# Altium integrated library NUVOTON.IntLib: 234 symbols (part 4 of 9)

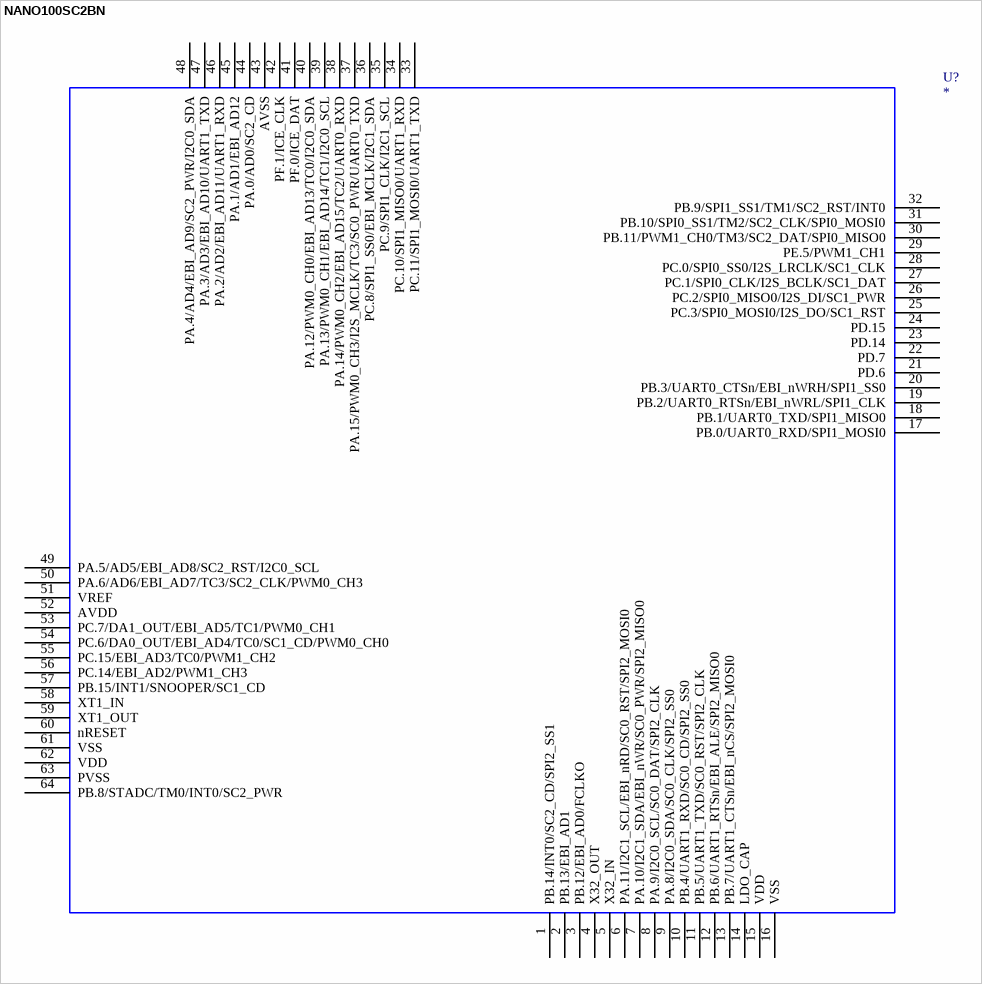
[diagram p69: symbol NANO100SC2BN]

## NANO100SC2BN
designator U?
OriginalSymbolOrigin: (0,0)
footprint MCU_LQFP_64_7x7
pins: 1 PB.14/INT0/SC2_CD/SPI2_SS1, 2 PB.13/EBI_AD1, 3 PB.12/EBI_AD0/FCLKO, 4 X32_OUT, 5 X32_IN, 6 PA.11/I2C1_SCL/EBI_nRD/SC0_RST/SPI2_MOSI0, 7 PA.10/I2C1_SDA/EBI_nWR/SC0_PWR/SPI2_MISO0, 8 PA.9/I2C0_SCL/SC0_DAT/SPI2_CLK, 9 PA.8/I2C0_SDA/SC0_CLK/SPI2_SS0, 10 PB.4/UART1_RXD/SC0_CD/SPI2_SS0, 11 PB.5/UART1_TXD/SC0_RST/SPI2_CLK, 12 PB.6/UART1_RTSn/EBI_ALE/SPI2_MISO0, 13 PB.7/UART1_CTSn/EBI_nCS/SPI2_MOSI0, 14 LDO_CAP, 15 VDD, 16 VSS, 17 PB.0/UART0_RXD/SPI1_MOSI0, 18 PB.1/UART0_TXD/SPI1_MISO0, 19 PB.2/UART0_RTSn/EBI_nWRL/SPI1_CLK, 20 PB.3/UART0_CTSn/EBI_nWRH/SPI1_SS0, 21 PD.6, 22 PD.7, 23 PD.14, 24 PD.15, 25 PC.3/SPI0_MOSI0/I2S_DO/SC1_RST, 26 PC.2/SPI0_MISO0/I2S_DI/SC1_PWR, 27 PC.1/SPI0_CLK/I2S_BCLK/SC1_DAT, 28 PC.0/SPI0_SS0/I2S_LRCLK/SC1_CLK, 29 PE.5/PWM1_CH1, 30 PB.11/PWM1_CH0/TM3/SC2_DAT/SPI0_MISO0, 31 PB.10/SPI0_SS1/TM2/SC2_CLK/SPI0_MOSI0, 32 PB.9/SPI1_SS1/TM1/SC2_RST/INT0, 33 PC.11/SPI1_MOSI0/UART1_TXD, 34 PC.10/SPI1_MISO0/UART1_RXD, 35 PC.9/SPI1_CLK/I2C1_SCL, 36 PC.8/SPI1_SS0/EBI_MCLK/I2C1_SDA, 37 PA.15/PWM0_CH3/I2S_MCLK/TC3/SC0_PWR/UART0_TXD, 38 PA.14/PWM0_CH2/EBI_AD15/TC2/UART0_RXD, 39 PA.13/PWM0_CH1/EBI_AD14/TC1/I2C0_SCL, 40 PA.12/PWM0_CH0/EBI_AD13/TC0/I2C0_SDA, 41 PF.0/ICE_DAT, 42 PF.1/ICE_CLK, 43 AVSS, 44 PA.0/AD0/SC2_CD, 45 PA.1/AD1/EBI_AD12, 46 PA.2/AD2/EBI_AD11/UART1_RXD, 47 PA.3/AD3/EBI_AD10/UART1_TXD, 48 PA.4/AD4/EBI_AD9/SC2_PWR/I2C0_SDA, 49 PA.5/AD5/EBI_AD8/SC2_RST/I2C0_SCL, 50 PA.6/AD6/EBI_AD7/TC3/SC2_CLK/PWM0_CH3, 51 VREF, 52 AVDD, 53 PC.7/DA1_OUT/EBI_AD5/TC1/PWM0_CH1, 54 PC.6/DA0_OUT/EBI_AD4/TC0/SC1_CD/PWM0_CH0, 55 PC.15/EBI_AD3/TC0/PWM1_CH2, 56 PC.14/EBI_AD2/PWM1_CH3, 57 PB.15/INT1/SNOOPER/SC1_CD, 58 XT1_IN, 59 XT1_OUT, 60 nRESET, 61 VSS, 62 VDD, 63 PVSS, 64 PB.8/STADC/TM0/INT0/SC2_PWR

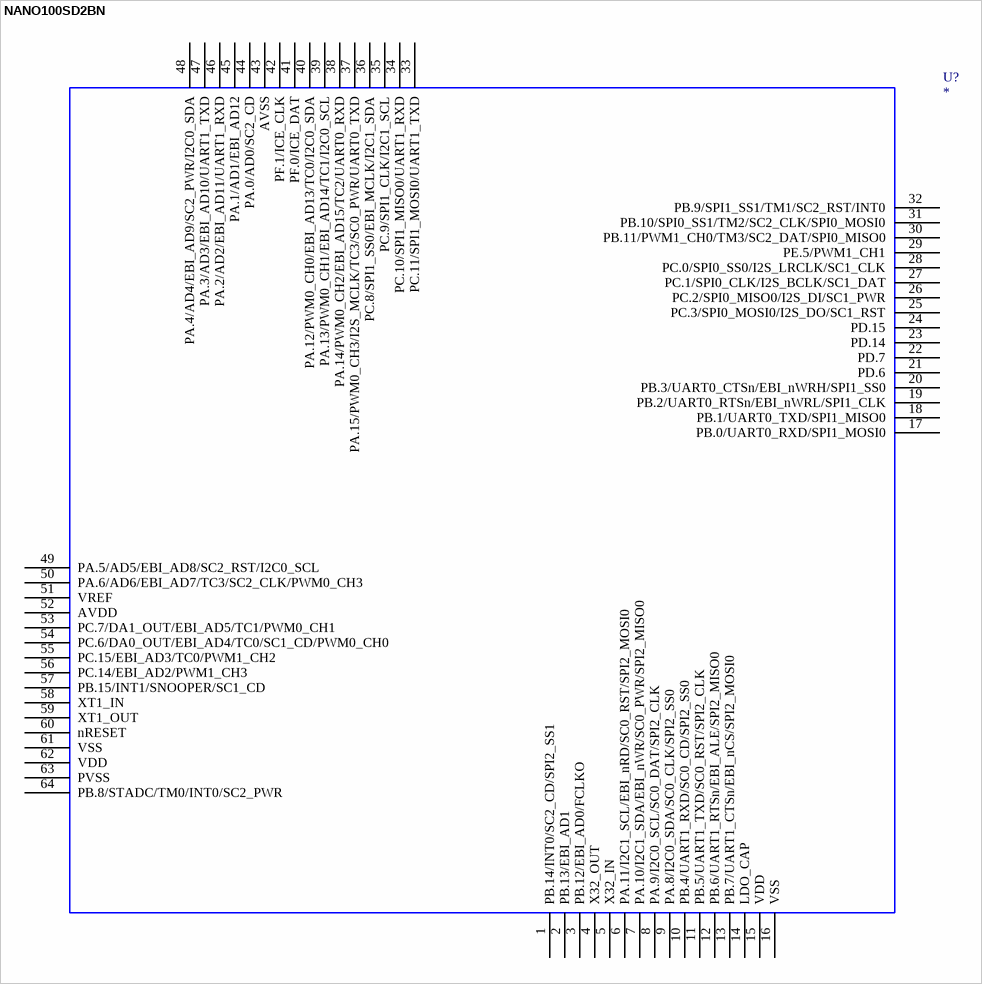
[diagram p70: symbol NANO100SD2BN]

## NANO100SD2BN
designator U?
OriginalSymbolOrigin: (0,0)
footprint MCU_LQFP_64_7x7
pins: 1 PB.14/INT0/SC2_CD/SPI2_SS1, 2 PB.13/EBI_AD1, 3 PB.12/EBI_AD0/FCLKO, 4 X32_OUT, 5 X32_IN, 6 PA.11/I2C1_SCL/EBI_nRD/SC0_RST/SPI2_MOSI0, 7 PA.10/I2C1_SDA/EBI_nWR/SC0_PWR/SPI2_MISO0, 8 PA.9/I2C0_SCL/SC0_DAT/SPI2_CLK, 9 PA.8/I2C0_SDA/SC0_CLK/SPI2_SS0, 10 PB.4/UART1_RXD/SC0_CD/SPI2_SS0, 11 PB.5/UART1_TXD/SC0_RST/SPI2_CLK, 12 PB.6/UART1_RTSn/EBI_ALE/SPI2_MISO0, 13 PB.7/UART1_CTSn/EBI_nCS/SPI2_MOSI0, 14 LDO_CAP, 15 VDD, 16 VSS, 17 PB.0/UART0_RXD/SPI1_MOSI0, 18 PB.1/UART0_TXD/SPI1_MISO0, 19 PB.2/UART0_RTSn/EBI_nWRL/SPI1_CLK, 20 PB.3/UART0_CTSn/EBI_nWRH/SPI1_SS0, 21 PD.6, 22 PD.7, 23 PD.14, 24 PD.15, 25 PC.3/SPI0_MOSI0/I2S_DO/SC1_RST, 26 PC.2/SPI0_MISO0/I2S_DI/SC1_PWR, 27 PC.1/SPI0_CLK/I2S_BCLK/SC1_DAT, 28 PC.0/SPI0_SS0/I2S_LRCLK/SC1_CLK, 29 PE.5/PWM1_CH1, 30 PB.11/PWM1_CH0/TM3/SC2_DAT/SPI0_MISO0, 31 PB.10/SPI0_SS1/TM2/SC2_CLK/SPI0_MOSI0, 32 PB.9/SPI1_SS1/TM1/SC2_RST/INT0, 33 PC.11/SPI1_MOSI0/UART1_TXD, 34 PC.10/SPI1_MISO0/UART1_RXD, 35 PC.9/SPI1_CLK/I2C1_SCL, 36 PC.8/SPI1_SS0/EBI_MCLK/I2C1_SDA, 37 PA.15/PWM0_CH3/I2S_MCLK/TC3/SC0_PWR/UART0_TXD, 38 PA.14/PWM0_CH2/EBI_AD15/TC2/UART0_RXD, 39 PA.13/PWM0_CH1/EBI_AD14/TC1/I2C0_SCL, 40 PA.12/PWM0_CH0/EBI_AD13/TC0/I2C0_SDA, 41 PF.0/ICE_DAT, 42 PF.1/ICE_CLK, 43 AVSS, 44 PA.0/AD0/SC2_CD, 45 PA.1/AD1/EBI_AD12, 46 PA.2/AD2/EBI_AD11/UART1_RXD, 47 PA.3/AD3/EBI_AD10/UART1_TXD, 48 PA.4/AD4/EBI_AD9/SC2_PWR/I2C0_SDA, 49 PA.5/AD5/EBI_AD8/SC2_RST/I2C0_SCL, 50 PA.6/AD6/EBI_AD7/TC3/SC2_CLK/PWM0_CH3, 51 VREF, 52 AVDD, 53 PC.7/DA1_OUT/EBI_AD5/TC1/PWM0_CH1, 54 PC.6/DA0_OUT/EBI_AD4/TC0/SC1_CD/PWM0_CH0, 55 PC.15/EBI_AD3/TC0/PWM1_CH2, 56 PC.14/EBI_AD2/PWM1_CH3, 57 PB.15/INT1/SNOOPER/SC1_CD, 58 XT1_IN, 59 XT1_OUT, 60 nRESET, 61 VSS, 62 VDD, 63 PVSS, 64 PB.8/STADC/TM0/INT0/SC2_PWR

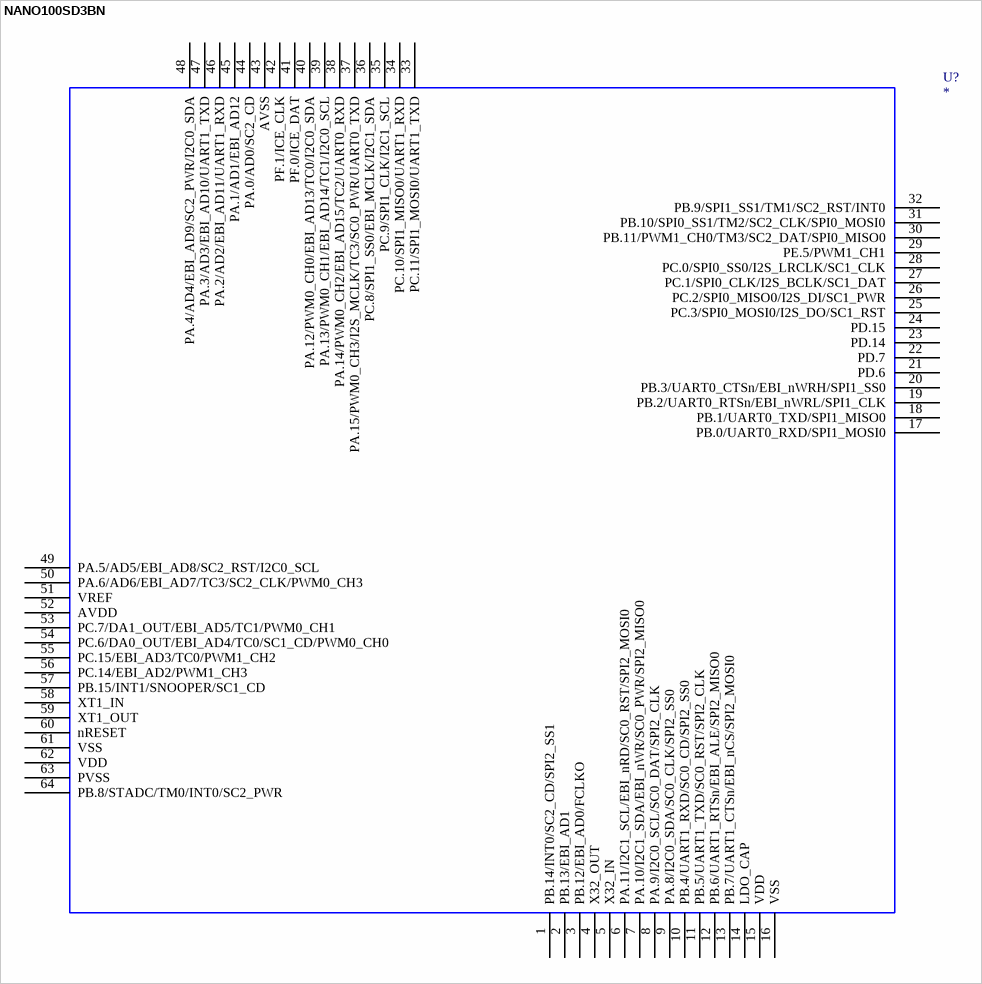
[diagram p71: symbol NANO100SD3BN]

## NANO100SD3BN
designator U?
OriginalSymbolOrigin: (0,0)
footprint MCU_LQFP_64_7x7
pins: 1 PB.14/INT0/SC2_CD/SPI2_SS1, 2 PB.13/EBI_AD1, 3 PB.12/EBI_AD0/FCLKO, 4 X32_OUT, 5 X32_IN, 6 PA.11/I2C1_SCL/EBI_nRD/SC0_RST/SPI2_MOSI0, 7 PA.10/I2C1_SDA/EBI_nWR/SC0_PWR/SPI2_MISO0, 8 PA.9/I2C0_SCL/SC0_DAT/SPI2_CLK, 9 PA.8/I2C0_SDA/SC0_CLK/SPI2_SS0, 10 PB.4/UART1_RXD/SC0_CD/SPI2_SS0, 11 PB.5/UART1_TXD/SC0_RST/SPI2_CLK, 12 PB.6/UART1_RTSn/EBI_ALE/SPI2_MISO0, 13 PB.7/UART1_CTSn/EBI_nCS/SPI2_MOSI0, 14 LDO_CAP, 15 VDD, 16 VSS, 17 PB.0/UART0_RXD/SPI1_MOSI0, 18 PB.1/UART0_TXD/SPI1_MISO0, 19 PB.2/UART0_RTSn/EBI_nWRL/SPI1_CLK, 20 PB.3/UART0_CTSn/EBI_nWRH/SPI1_SS0, 21 PD.6, 22 PD.7, 23 PD.14, 24 PD.15, 25 PC.3/SPI0_MOSI0/I2S_DO/SC1_RST, 26 PC.2/SPI0_MISO0/I2S_DI/SC1_PWR, 27 PC.1/SPI0_CLK/I2S_BCLK/SC1_DAT, 28 PC.0/SPI0_SS0/I2S_LRCLK/SC1_CLK, 29 PE.5/PWM1_CH1, 30 PB.11/PWM1_CH0/TM3/SC2_DAT/SPI0_MISO0, 31 PB.10/SPI0_SS1/TM2/SC2_CLK/SPI0_MOSI0, 32 PB.9/SPI1_SS1/TM1/SC2_RST/INT0, 33 PC.11/SPI1_MOSI0/UART1_TXD, 34 PC.10/SPI1_MISO0/UART1_RXD, 35 PC.9/SPI1_CLK/I2C1_SCL, 36 PC.8/SPI1_SS0/EBI_MCLK/I2C1_SDA, 37 PA.15/PWM0_CH3/I2S_MCLK/TC3/SC0_PWR/UART0_TXD, 38 PA.14/PWM0_CH2/EBI_AD15/TC2/UART0_RXD, 39 PA.13/PWM0_CH1/EBI_AD14/TC1/I2C0_SCL, 40 PA.12/PWM0_CH0/EBI_AD13/TC0/I2C0_SDA, 41 PF.0/ICE_DAT, 42 PF.1/ICE_CLK, 43 AVSS, 44 PA.0/AD0/SC2_CD, 45 PA.1/AD1/EBI_AD12, 46 PA.2/AD2/EBI_AD11/UART1_RXD, 47 PA.3/AD3/EBI_AD10/UART1_TXD, 48 PA.4/AD4/EBI_AD9/SC2_PWR/I2C0_SDA, 49 PA.5/AD5/EBI_AD8/SC2_RST/I2C0_SCL, 50 PA.6/AD6/EBI_AD7/TC3/SC2_CLK/PWM0_CH3, 51 VREF, 52 AVDD, 53 PC.7/DA1_OUT/EBI_AD5/TC1/PWM0_CH1, 54 PC.6/DA0_OUT/EBI_AD4/TC0/SC1_CD/PWM0_CH0, 55 PC.15/EBI_AD3/TC0/PWM1_CH2, 56 PC.14/EBI_AD2/PWM1_CH3, 57 PB.15/INT1/SNOOPER/SC1_CD, 58 XT1_IN, 59 XT1_OUT, 60 nRESET, 61 VSS, 62 VDD, 63 PVSS, 64 PB.8/STADC/TM0/INT0/SC2_PWR

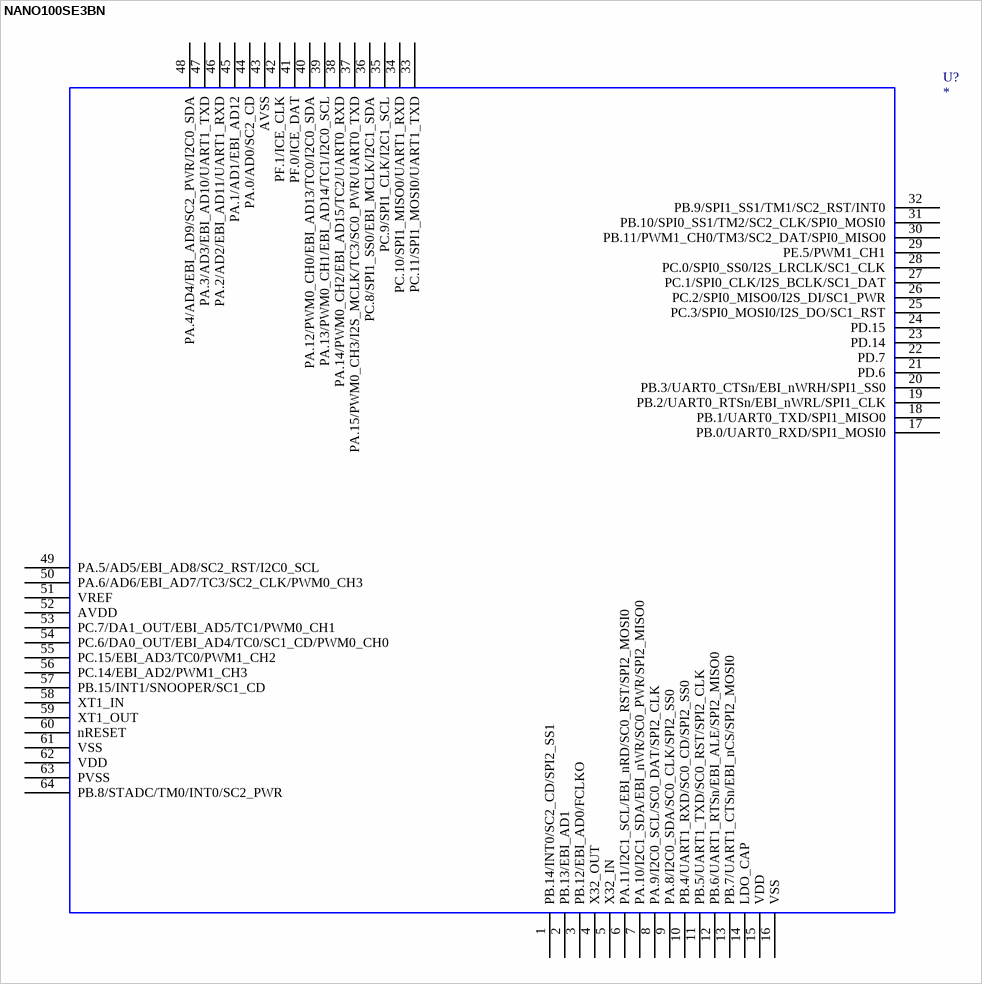
[diagram p72: symbol NANO100SE3BN]

## NANO100SE3BN
designator U?
OriginalSymbolOrigin: (0,0)
footprint MCU_LQFP_64_7x7
pins: 1 PB.14/INT0/SC2_CD/SPI2_SS1, 2 PB.13/EBI_AD1, 3 PB.12/EBI_AD0/FCLKO, 4 X32_OUT, 5 X32_IN, 6 PA.11/I2C1_SCL/EBI_nRD/SC0_RST/SPI2_MOSI0, 7 PA.10/I2C1_SDA/EBI_nWR/SC0_PWR/SPI2_MISO0, 8 PA.9/I2C0_SCL/SC0_DAT/SPI2_CLK, 9 PA.8/I2C0_SDA/SC0_CLK/SPI2_SS0, 10 PB.4/UART1_RXD/SC0_CD/SPI2_SS0, 11 PB.5/UART1_TXD/SC0_RST/SPI2_CLK, 12 PB.6/UART1_RTSn/EBI_ALE/SPI2_MISO0, 13 PB.7/UART1_CTSn/EBI_nCS/SPI2_MOSI0, 14 LDO_CAP, 15 VDD, 16 VSS, 17 PB.0/UART0_RXD/SPI1_MOSI0, 18 PB.1/UART0_TXD/SPI1_MISO0, 19 PB.2/UART0_RTSn/EBI_nWRL/SPI1_CLK, 20 PB.3/UART0_CTSn/EBI_nWRH/SPI1_SS0, 21 PD.6, 22 PD.7, 23 PD.14, 24 PD.15, 25 PC.3/SPI0_MOSI0/I2S_DO/SC1_RST, 26 PC.2/SPI0_MISO0/I2S_DI/SC1_PWR, 27 PC.1/SPI0_CLK/I2S_BCLK/SC1_DAT, 28 PC.0/SPI0_SS0/I2S_LRCLK/SC1_CLK, 29 PE.5/PWM1_CH1, 30 PB.11/PWM1_CH0/TM3/SC2_DAT/SPI0_MISO0, 31 PB.10/SPI0_SS1/TM2/SC2_CLK/SPI0_MOSI0, 32 PB.9/SPI1_SS1/TM1/SC2_RST/INT0, 33 PC.11/SPI1_MOSI0/UART1_TXD, 34 PC.10/SPI1_MISO0/UART1_RXD, 35 PC.9/SPI1_CLK/I2C1_SCL, 36 PC.8/SPI1_SS0/EBI_MCLK/I2C1_SDA, 37 PA.15/PWM0_CH3/I2S_MCLK/TC3/SC0_PWR/UART0_TXD, 38 PA.14/PWM0_CH2/EBI_AD15/TC2/UART0_RXD, 39 PA.13/PWM0_CH1/EBI_AD14/TC1/I2C0_SCL, 40 PA.12/PWM0_CH0/EBI_AD13/TC0/I2C0_SDA, 41 PF.0/ICE_DAT, 42 PF.1/ICE_CLK, 43 AVSS, 44 PA.0/AD0/SC2_CD, 45 PA.1/AD1/EBI_AD12, 46 PA.2/AD2/EBI_AD11/UART1_RXD, 47 PA.3/AD3/EBI_AD10/UART1_TXD, 48 PA.4/AD4/EBI_AD9/SC2_PWR/I2C0_SDA, 49 PA.5/AD5/EBI_AD8/SC2_RST/I2C0_SCL, 50 PA.6/AD6/EBI_AD7/TC3/SC2_CLK/PWM0_CH3, 51 VREF, 52 AVDD, 53 PC.7/DA1_OUT/EBI_AD5/TC1/PWM0_CH1, 54 PC.6/DA0_OUT/EBI_AD4/TC0/SC1_CD/PWM0_CH0, 55 PC.15/EBI_AD3/TC0/PWM1_CH2, 56 PC.14/EBI_AD2/PWM1_CH3, 57 PB.15/INT1/SNOOPER/SC1_CD, 58 XT1_IN, 59 XT1_OUT, 60 nRESET, 61 VSS, 62 VDD, 63 PVSS, 64 PB.8/STADC/TM0/INT0/SC2_PWR


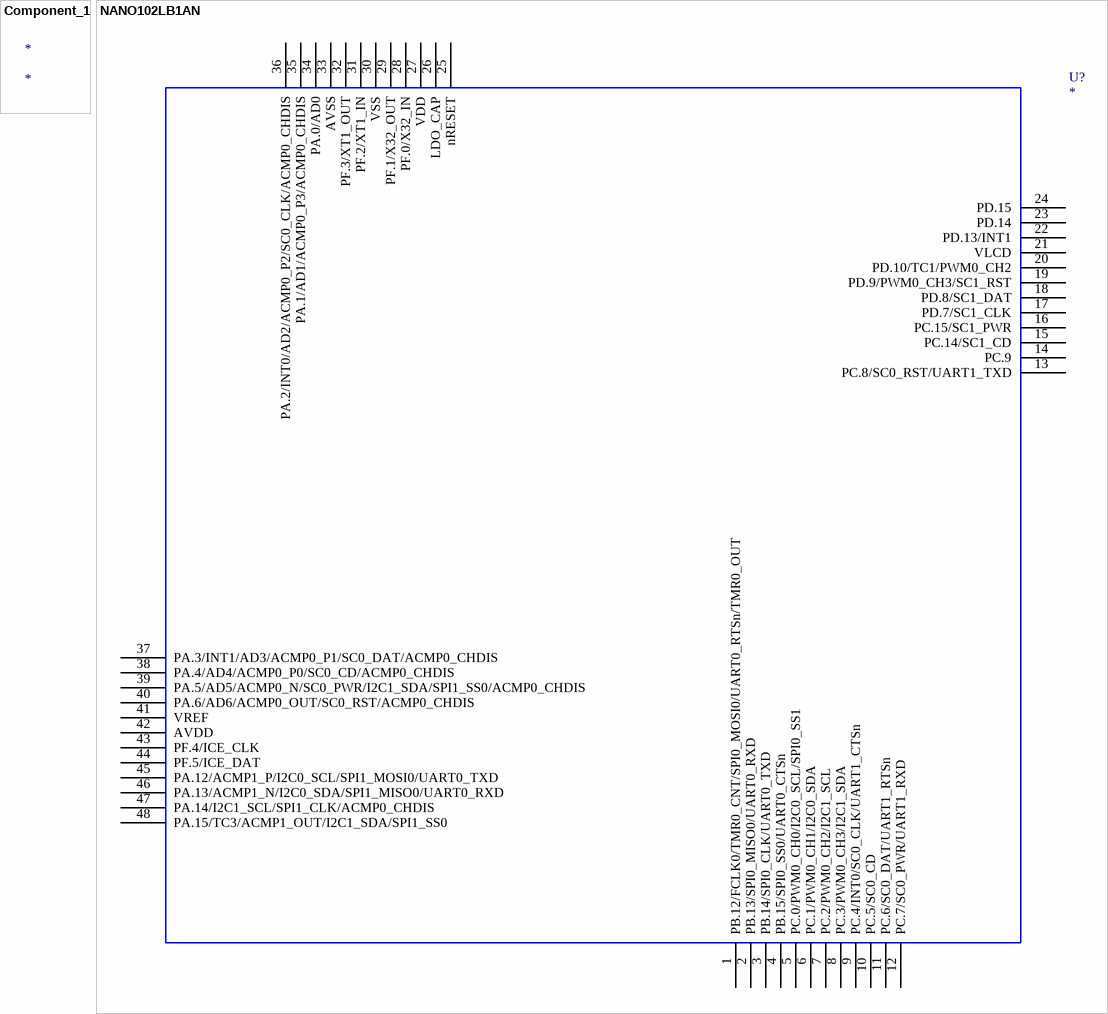
[diagram p73: symbols Component_1 to NANO102LB1AN]

## Component_1
designator *

## NANO102LB1AN
designator U?
OriginalSymbolOrigin: (0,0)
footprint MCU_LQFP_48
pins: 1 PB.12/FCLK0/TMR0_CNT/SPI0_MOSI0/UART0_RTSn/TMR0_OUT, 2 PB.13/SPI0_MISO0/UART0_RXD, 3 PB.14/SPI0_CLK/UART0_TXD, 4 PB.15/SPI0_SS0/UART0_CTSn, 5 PC.0/PWM0_CH0/I2C0_SCL/SPI0_SS1, 6 PC.1/PWM0_CH1/I2C0_SDA, 7 PC.2/PWM0_CH2/I2C1_SCL, 8 PC.3/PWM0_CH3/I2C1_SDA, 9 PC.4/INT0/SC0_CLK/UART1_CTSn, 10 PC.5/SC0_CD, 11 PC.6/SC0_DAT/UART1_RTSn, 12 PC.7/SC0_PWR/UART1_RXD, 13 PC.8/SC0_RST/UART1_TXD, 14 PC.9, 15 PC.14/SC1_CD, 16 PC.15/SC1_PWR, 17 PD.7/SC1_CLK, 18 PD.8/SC1_DAT, 19 PD.9/PWM0_CH3/SC1_RST, 20 PD.10/TC1/PWM0_CH2, 21 VLCD, 22 PD.13/INT1, 23 PD.14, 24 PD.15, 25 nRESET, 26 LDO_CAP, 27 VDD, 28 PF.0/X32_IN, 29 PF.1/X32_OUT, 30 VSS, 31 PF.2/XT1_IN, 32 PF.3/XT1_OUT, 33 AVSS, 34 PA.0/AD0, 35 PA.1/AD1/ACMP0_P3/ACMP0_CHDIS, 36 PA.2/INT0/AD2/ACMP0_P2/SC0_CLK/ACMP0_CHDIS, 37 PA.3/INT1/AD3/ACMP0_P1/SC0_DAT/ACMP0_CHDIS, 38 PA.4/AD4/ACMP0_P0/SC0_CD/ACMP0_CHDIS, 39 PA.5/AD5/ACMP0_N/SC0_PWR/I2C1_SDA/SPI1_SS0/ACMP0_CHDIS, 40 PA.6/AD6/ACMP0_OUT/SC0_RST/ACMP0_CHDIS, 41 VREF, 42 AVDD, 43 PF.4/ICE_CLK, 44 PF.5/ICE_DAT, 45 PA.12/ACMP1_P/I2C0_SCL/SPI1_MOSI0/UART0_TXD, 46 PA.13/ACMP1_N/I2C0_SDA/SPI1_MISO0/UART0_RXD, 47 PA.14/I2C1_SCL/SPI1_CLK/ACMP0_CHDIS, 48 PA.15/TC3/ACMP1_OUT/I2C1_SDA/SPI1_SS0

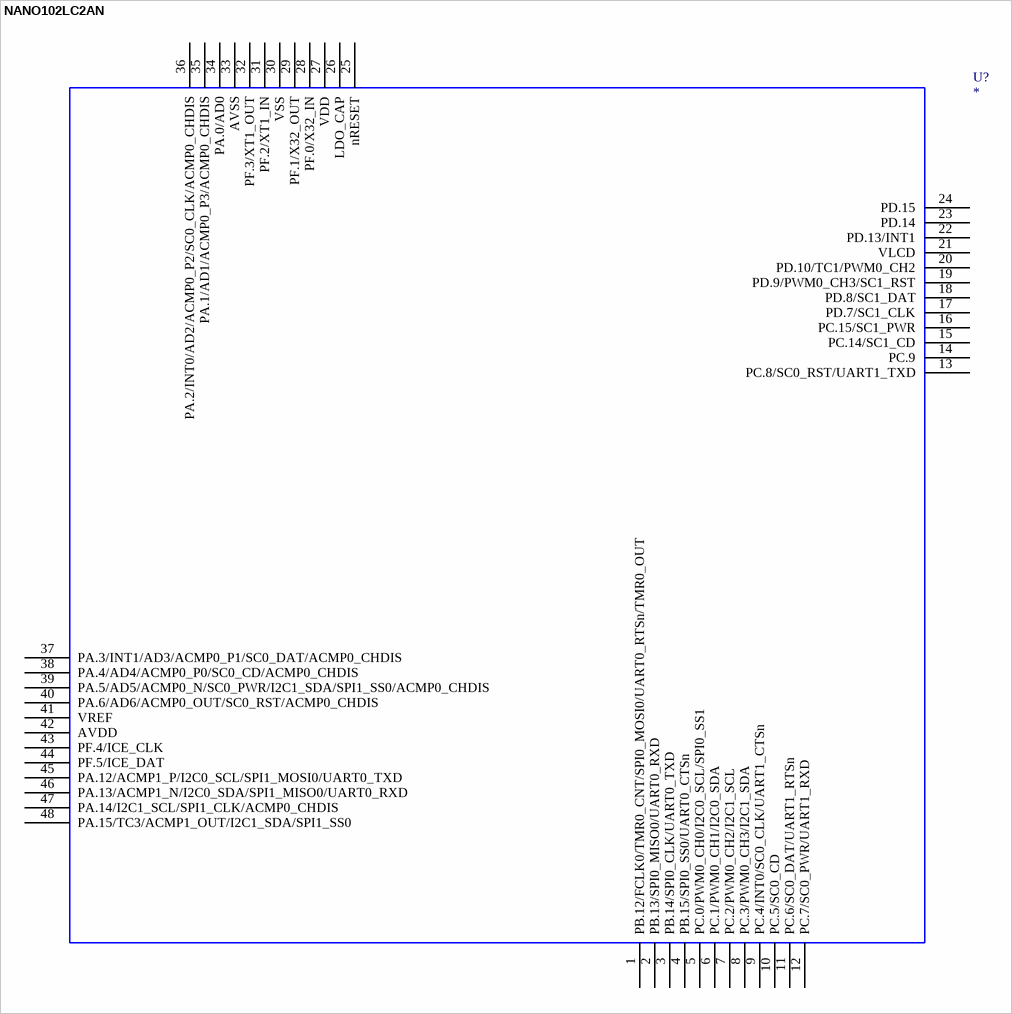
[diagram p74: symbol NANO102LC2AN]

## NANO102LC2AN
designator U?
OriginalSymbolOrigin: (0,0)
footprint MCU_LQFP_48
pins: 1 PB.12/FCLK0/TMR0_CNT/SPI0_MOSI0/UART0_RTSn/TMR0_OUT, 2 PB.13/SPI0_MISO0/UART0_RXD, 3 PB.14/SPI0_CLK/UART0_TXD, 4 PB.15/SPI0_SS0/UART0_CTSn, 5 PC.0/PWM0_CH0/I2C0_SCL/SPI0_SS1, 6 PC.1/PWM0_CH1/I2C0_SDA, 7 PC.2/PWM0_CH2/I2C1_SCL, 8 PC.3/PWM0_CH3/I2C1_SDA, 9 PC.4/INT0/SC0_CLK/UART1_CTSn, 10 PC.5/SC0_CD, 11 PC.6/SC0_DAT/UART1_RTSn, 12 PC.7/SC0_PWR/UART1_RXD, 13 PC.8/SC0_RST/UART1_TXD, 14 PC.9, 15 PC.14/SC1_CD, 16 PC.15/SC1_PWR, 17 PD.7/SC1_CLK, 18 PD.8/SC1_DAT, 19 PD.9/PWM0_CH3/SC1_RST, 20 PD.10/TC1/PWM0_CH2, 21 VLCD, 22 PD.13/INT1, 23 PD.14, 24 PD.15, 25 nRESET, 26 LDO_CAP, 27 VDD, 28 PF.0/X32_IN, 29 PF.1/X32_OUT, 30 VSS, 31 PF.2/XT1_IN, 32 PF.3/XT1_OUT, 33 AVSS, 34 PA.0/AD0, 35 PA.1/AD1/ACMP0_P3/ACMP0_CHDIS, 36 PA.2/INT0/AD2/ACMP0_P2/SC0_CLK/ACMP0_CHDIS, 37 PA.3/INT1/AD3/ACMP0_P1/SC0_DAT/ACMP0_CHDIS, 38 PA.4/AD4/ACMP0_P0/SC0_CD/ACMP0_CHDIS, 39 PA.5/AD5/ACMP0_N/SC0_PWR/I2C1_SDA/SPI1_SS0/ACMP0_CHDIS, 40 PA.6/AD6/ACMP0_OUT/SC0_RST/ACMP0_CHDIS, 41 VREF, 42 AVDD, 43 PF.4/ICE_CLK, 44 PF.5/ICE_DAT, 45 PA.12/ACMP1_P/I2C0_SCL/SPI1_MOSI0/UART0_TXD, 46 PA.13/ACMP1_N/I2C0_SDA/SPI1_MISO0/UART0_RXD, 47 PA.14/I2C1_SCL/SPI1_CLK/ACMP0_CHDIS, 48 PA.15/TC3/ACMP1_OUT/I2C1_SDA/SPI1_SS0

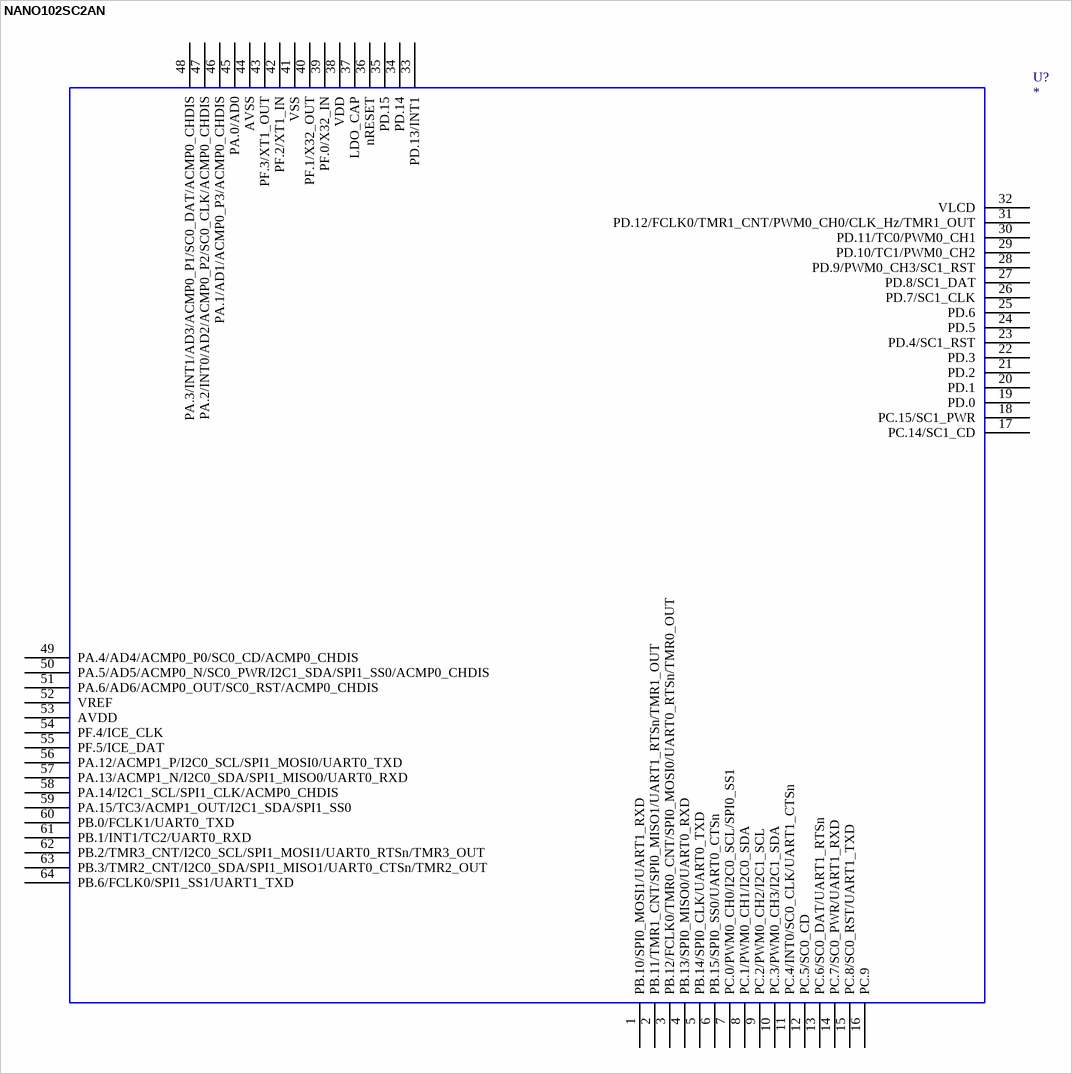
[diagram p75: symbol NANO102SC2AN]

## NANO102SC2AN
designator U?
OriginalSymbolOrigin: (0,0)
footprint MCU_LQFP_64_7x7
pins: 1 PB.10/SPI0_MOSI1/UART1_RXD, 2 PB.11/TMR1_CNT/SPI0_MISO1/UART1_RTSn/TMR1_OUT, 3 PB.12/FCLK0/TMR0_CNT/SPI0_MOSI0/UART0_RTSn/TMR0_OUT, 4 PB.13/SPI0_MISO0/UART0_RXD, 5 PB.14/SPI0_CLK/UART0_TXD, 6 PB.15/SPI0_SS0/UART0_CTSn, 7 PC.0/PWM0_CH0/I2C0_SCL/SPI0_SS1, 8 PC.1/PWM0_CH1/I2C0_SDA, 9 PC.2/PWM0_CH2/I2C1_SCL, 10 PC.3/PWM0_CH3/I2C1_SDA, 11 PC.4/INT0/SC0_CLK/UART1_CTSn, 12 PC.5/SC0_CD, 13 PC.6/SC0_DAT/UART1_RTSn, 14 PC.7/SC0_PWR/UART1_RXD, 15 PC.8/SC0_RST/UART1_TXD, 16 PC.9, 17 PC.14/SC1_CD, 18 PC.15/SC1_PWR, 19 PD.0, 20 PD.1, 21 PD.2, 22 PD.3, 23 PD.4/SC1_RST, 24 PD.5, 25 PD.6, 26 PD.7/SC1_CLK, 27 PD.8/SC1_DAT, 28 PD.9/PWM0_CH3/SC1_RST, 29 PD.10/TC1/PWM0_CH2, 30 PD.11/TC0/PWM0_CH1, 31 PD.12/FCLK0/TMR1_CNT/PWM0_CH0/CLK_Hz/TMR1_OUT, 32 VLCD, 33 PD.13/INT1, 34 PD.14, 35 PD.15, 36 nRESET, 37 LDO_CAP, 38 VDD, 39 PF.0/X32_IN, 40 PF.1/X32_OUT, 41 VSS, 42 PF.2/XT1_IN, 43 PF.3/XT1_OUT, 44 AVSS, 45 PA.0/AD0, 46 PA.1/AD1/ACMP0_P3/ACMP0_CHDIS, 47 PA.2/INT0/AD2/ACMP0_P2/SC0_CLK/ACMP0_CHDIS, 48 PA.3/INT1/AD3/ACMP0_P1/SC0_DAT/ACMP0_CHDIS, 49 PA.4/AD4/ACMP0_P0/SC0_CD/ACMP0_CHDIS, 50 PA.5/AD5/ACMP0_N/SC0_PWR/I2C1_SDA/SPI1_SS0/ACMP0_CHDIS, 51 PA.6/AD6/ACMP0_OUT/SC0_RST/ACMP0_CHDIS, 52 VREF, 53 AVDD, 54 PF.4/ICE_CLK, 55 PF.5/ICE_DAT, 56 PA.12/ACMP1_P/I2C0_SCL/SPI1_MOSI0/UART0_TXD, 57 PA.13/ACMP1_N/I2C0_SDA/SPI1_MISO0/UART0_RXD, 58 PA.14/I2C1_SCL/SPI1_CLK/ACMP0_CHDIS, 59 PA.15/TC3/ACMP1_OUT/I2C1_SDA/SPI1_SS0, 60 PB.0/FCLK1/UART0_TXD, 61 PB.1/INT1/TC2/UART0_RXD, 62 PB.2/TMR3_CNT/I2C0_SCL/SPI1_MOSI1/UART0_RTSn/TMR3_OUT, 63 PB.3/TMR2_CNT/I2C0_SDA/SPI1_MISO1/UART0_CTSn/TMR2_OUT, 64 PB.6/FCLK0/SPI1_SS1/UART1_TXD

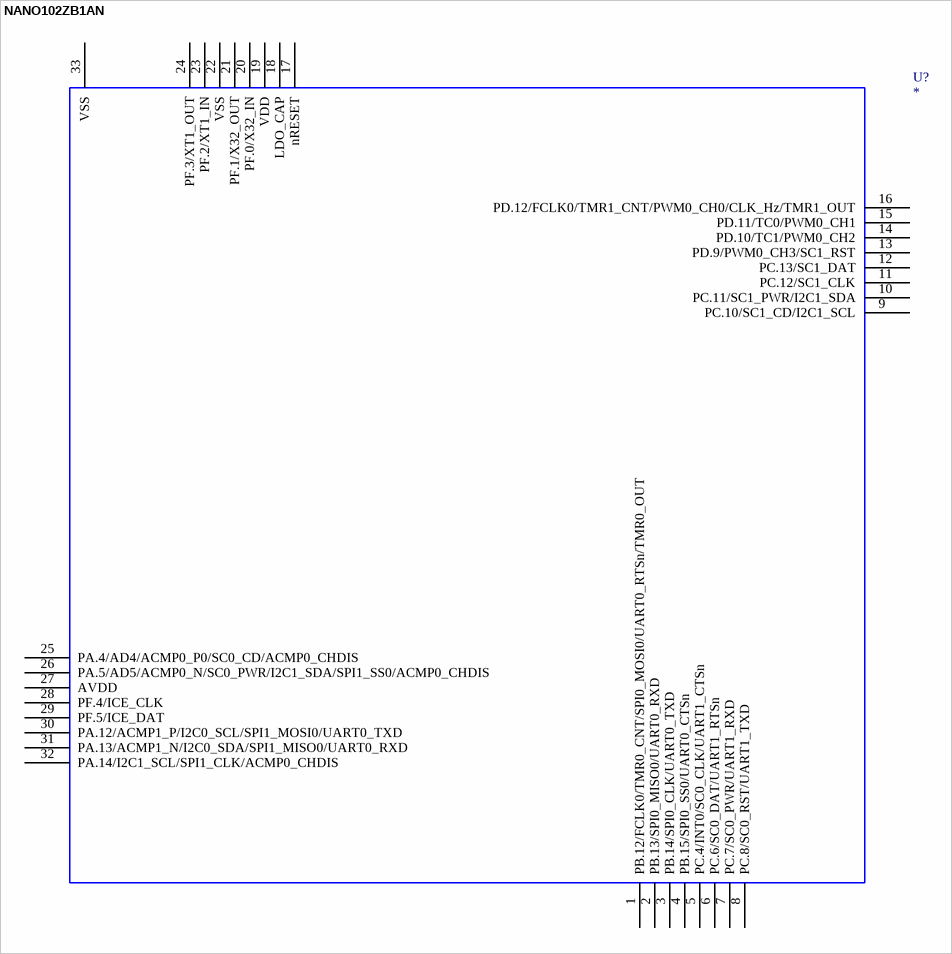
[diagram p76: symbol NANO102ZB1AN]

## NANO102ZB1AN
designator U?
OriginalSymbolOrigin: (0,0)
footprint MCU_QFN_33_5x5
pins: 1 PB.12/FCLK0/TMR0_CNT/SPI0_MOSI0/UART0_RTSn/TMR0_OUT, 2 PB.13/SPI0_MISO0/UART0_RXD, 3 PB.14/SPI0_CLK/UART0_TXD, 4 PB.15/SPI0_SS0/UART0_CTSn, 5 PC.4/INT0/SC0_CLK/UART1_CTSn, 6 PC.6/SC0_DAT/UART1_RTSn, 7 PC.7/SC0_PWR/UART1_RXD, 8 PC.8/SC0_RST/UART1_TXD, 9 PC.10/SC1_CD/I2C1_SCL, 10 PC.11/SC1_PWR/I2C1_SDA, 11 PC.12/SC1_CLK, 12 PC.13/SC1_DAT, 13 PD.9/PWM0_CH3/SC1_RST, 14 PD.10/TC1/PWM0_CH2, 15 PD.11/TC0/PWM0_CH1, 16 PD.12/FCLK0/TMR1_CNT/PWM0_CH0/CLK_Hz/TMR1_OUT, 17 nRESET, 18 LDO_CAP, 19 VDD, 20 PF.0/X32_IN, 21 PF.1/X32_OUT, 22 VSS, 23 PF.2/XT1_IN, 24 PF.3/XT1_OUT, 25 PA.4/AD4/ACMP0_P0/SC0_CD/ACMP0_CHDIS, 26 PA.5/AD5/ACMP0_N/SC0_PWR/I2C1_SDA/SPI1_SS0/ACMP0_CHDIS, 27 AVDD, 28 PF.4/ICE_CLK, 29 PF.5/ICE_DAT, 30 PA.12/ACMP1_P/I2C0_SCL/SPI1_MOSI0/UART0_TXD, 31 PA.13/ACMP1_N/I2C0_SDA/SPI1_MISO0/UART0_RXD, 32 PA.14/I2C1_SCL/SPI1_CLK/ACMP0_CHDIS, 33 VSS

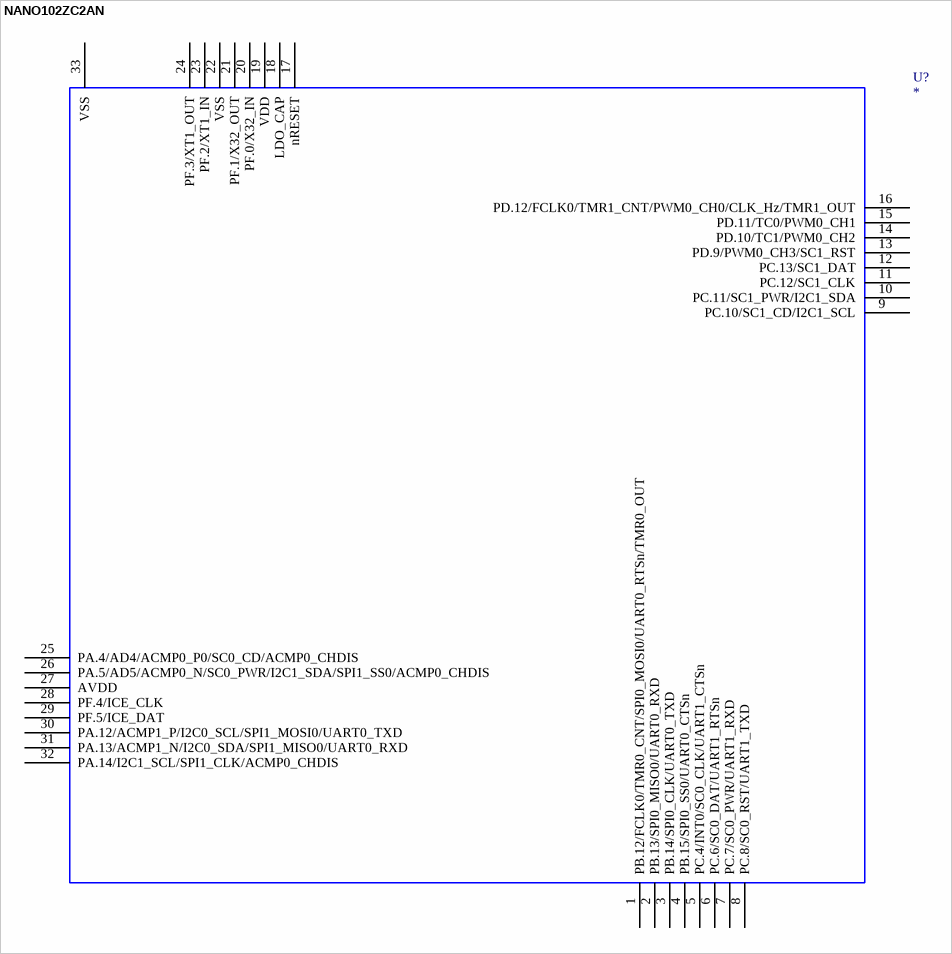
[diagram p77: symbol NANO102ZC2AN]

## NANO102ZC2AN
designator U?
OriginalSymbolOrigin: (0,0)
footprint MCU_QFN_33_5x5
pins: 1 PB.12/FCLK0/TMR0_CNT/SPI0_MOSI0/UART0_RTSn/TMR0_OUT, 2 PB.13/SPI0_MISO0/UART0_RXD, 3 PB.14/SPI0_CLK/UART0_TXD, 4 PB.15/SPI0_SS0/UART0_CTSn, 5 PC.4/INT0/SC0_CLK/UART1_CTSn, 6 PC.6/SC0_DAT/UART1_RTSn, 7 PC.7/SC0_PWR/UART1_RXD, 8 PC.8/SC0_RST/UART1_TXD, 9 PC.10/SC1_CD/I2C1_SCL, 10 PC.11/SC1_PWR/I2C1_SDA, 11 PC.12/SC1_CLK, 12 PC.13/SC1_DAT, 13 PD.9/PWM0_CH3/SC1_RST, 14 PD.10/TC1/PWM0_CH2, 15 PD.11/TC0/PWM0_CH1, 16 PD.12/FCLK0/TMR1_CNT/PWM0_CH0/CLK_Hz/TMR1_OUT, 17 nRESET, 18 LDO_CAP, 19 VDD, 20 PF.0/X32_IN, 21 PF.1/X32_OUT, 22 VSS, 23 PF.2/XT1_IN, 24 PF.3/XT1_OUT, 25 PA.4/AD4/ACMP0_P0/SC0_CD/ACMP0_CHDIS, 26 PA.5/AD5/ACMP0_N/SC0_PWR/I2C1_SDA/SPI1_SS0/ACMP0_CHDIS, 27 AVDD, 28 PF.4/ICE_CLK, 29 PF.5/ICE_DAT, 30 PA.12/ACMP1_P/I2C0_SCL/SPI1_MOSI0/UART0_TXD, 31 PA.13/ACMP1_N/I2C0_SDA/SPI1_MISO0/UART0_RXD, 32 PA.14/I2C1_SCL/SPI1_CLK/ACMP0_CHDIS, 33 VSS

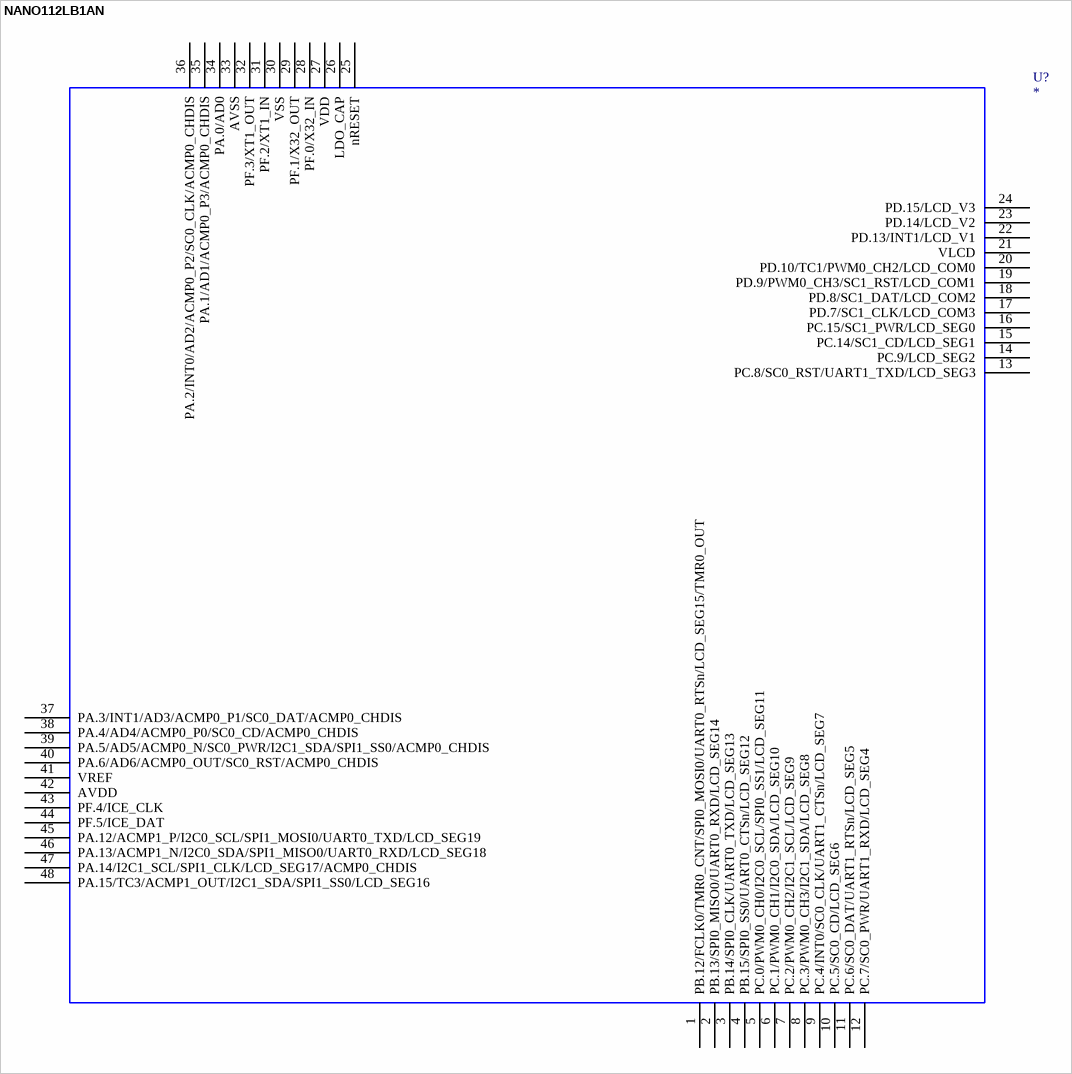
[diagram p78: symbol NANO112LB1AN]

## NANO112LB1AN
designator U?
OriginalSymbolOrigin: (0,0)
footprint MCU_LQFP_48
pins: 1 PB.12/FCLK0/TMR0_CNT/SPI0_MOSI0/UART0_RTSn/LCD_SEG15/TMR0_OUT, 2 PB.13/SPI0_MISO0/UART0_RXD/LCD_SEG14, 3 PB.14/SPI0_CLK/UART0_TXD/LCD_SEG13, 4 PB.15/SPI0_SS0/UART0_CTSn/LCD_SEG12, 5 PC.0/PWM0_CH0/I2C0_SCL/SPI0_SS1/LCD_SEG11, 6 PC.1/PWM0_CH1/I2C0_SDA/LCD_SEG10, 7 PC.2/PWM0_CH2/I2C1_SCL/LCD_SEG9, 8 PC.3/PWM0_CH3/I2C1_SDA/LCD_SEG8, 9 PC.4/INT0/SC0_CLK/UART1_CTSn/LCD_SEG7, 10 PC.5/SC0_CD/LCD_SEG6, 11 PC.6/SC0_DAT/UART1_RTSn/LCD_SEG5, 12 PC.7/SC0_PWR/UART1_RXD/LCD_SEG4, 13 PC.8/SC0_RST/UART1_TXD/LCD_SEG3, 14 PC.9/LCD_SEG2, 15 PC.14/SC1_CD/LCD_SEG1, 16 PC.15/SC1_PWR/LCD_SEG0, 17 PD.7/SC1_CLK/LCD_COM3, 18 PD.8/SC1_DAT/LCD_COM2, 19 PD.9/PWM0_CH3/SC1_RST/LCD_COM1, 20 PD.10/TC1/PWM0_CH2/LCD_COM0, 21 VLCD, 22 PD.13/INT1/LCD_V1, 23 PD.14/LCD_V2, 24 PD.15/LCD_V3, 25 nRESET, 26 LDO_CAP, 27 VDD, 28 PF.0/X32_IN, 29 PF.1/X32_OUT, 30 VSS, 31 PF.2/XT1_IN, 32 PF.3/XT1_OUT, 33 AVSS, 34 PA.0/AD0, 35 PA.1/AD1/ACMP0_P3/ACMP0_CHDIS, 36 PA.2/INT0/AD2/ACMP0_P2/SC0_CLK/ACMP0_CHDIS, 37 PA.3/INT1/AD3/ACMP0_P1/SC0_DAT/ACMP0_CHDIS, 38 PA.4/AD4/ACMP0_P0/SC0_CD/ACMP0_CHDIS, 39 PA.5/AD5/ACMP0_N/SC0_PWR/I2C1_SDA/SPI1_SS0/ACMP0_CHDIS, 40 PA.6/AD6/ACMP0_OUT/SC0_RST/ACMP0_CHDIS, 41 VREF, 42 AVDD, 43 PF.4/ICE_CLK, 44 PF.5/ICE_DAT, 45 PA.12/ACMP1_P/I2C0_SCL/SPI1_MOSI0/UART0_TXD/LCD_SEG19, 46 PA.13/ACMP1_N/I2C0_SDA/SPI1_MISO0/UART0_RXD/LCD_SEG18, 47 PA.14/I2C1_SCL/SPI1_CLK/LCD_SEG17/ACMP0_CHDIS, 48 PA.15/TC3/ACMP1_OUT/I2C1_SDA/SPI1_SS0/LCD_SEG16

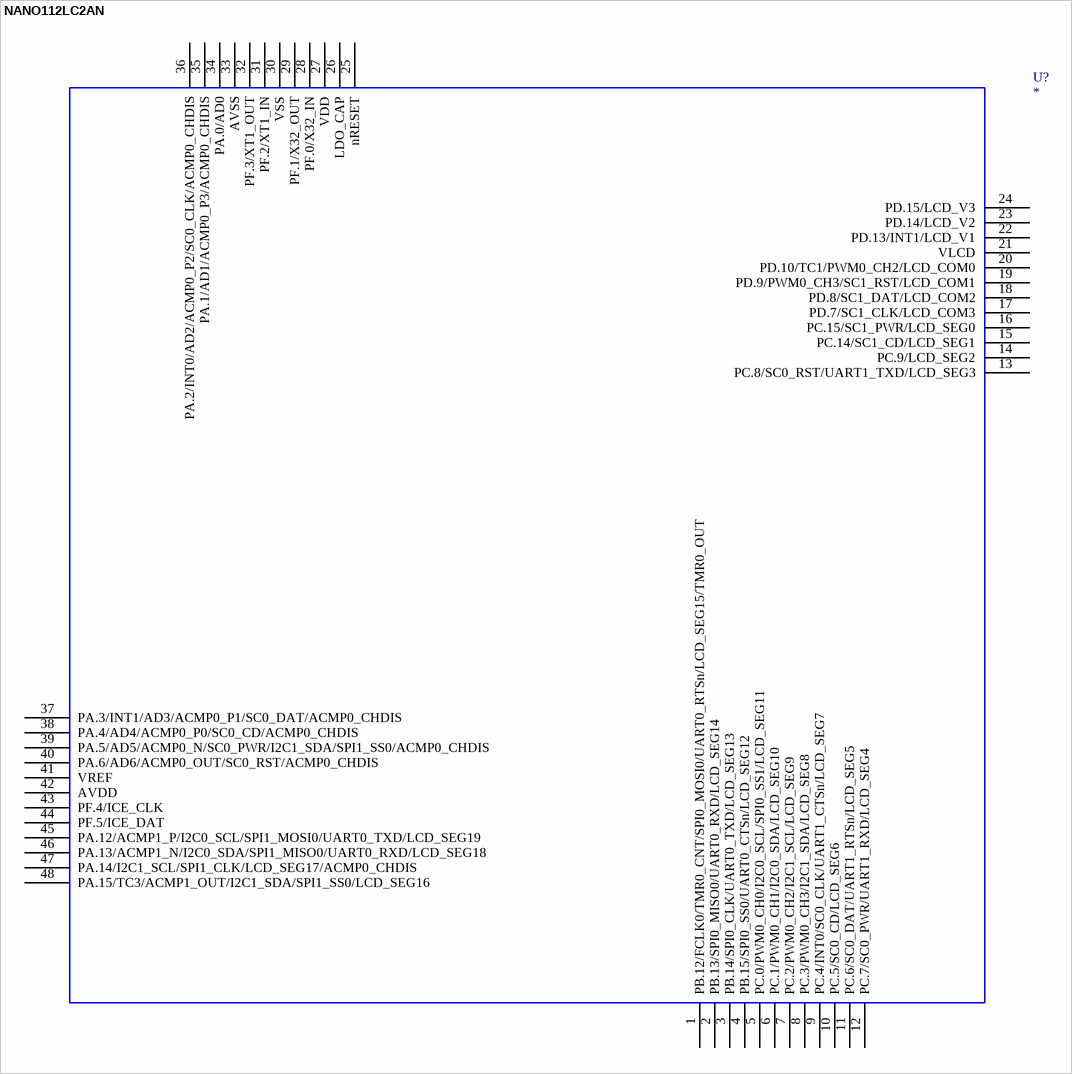
[diagram p79: symbol NANO112LC2AN]

## NANO112LC2AN
designator U?
OriginalSymbolOrigin: (0,0)
footprint MCU_LQFP_48
pins: 1 PB.12/FCLK0/TMR0_CNT/SPI0_MOSI0/UART0_RTSn/LCD_SEG15/TMR0_OUT, 2 PB.13/SPI0_MISO0/UART0_RXD/LCD_SEG14, 3 PB.14/SPI0_CLK/UART0_TXD/LCD_SEG13, 4 PB.15/SPI0_SS0/UART0_CTSn/LCD_SEG12, 5 PC.0/PWM0_CH0/I2C0_SCL/SPI0_SS1/LCD_SEG11, 6 PC.1/PWM0_CH1/I2C0_SDA/LCD_SEG10, 7 PC.2/PWM0_CH2/I2C1_SCL/LCD_SEG9, 8 PC.3/PWM0_CH3/I2C1_SDA/LCD_SEG8, 9 PC.4/INT0/SC0_CLK/UART1_CTSn/LCD_SEG7, 10 PC.5/SC0_CD/LCD_SEG6, 11 PC.6/SC0_DAT/UART1_RTSn/LCD_SEG5, 12 PC.7/SC0_PWR/UART1_RXD/LCD_SEG4, 13 PC.8/SC0_RST/UART1_TXD/LCD_SEG3, 14 PC.9/LCD_SEG2, 15 PC.14/SC1_CD/LCD_SEG1, 16 PC.15/SC1_PWR/LCD_SEG0, 17 PD.7/SC1_CLK/LCD_COM3, 18 PD.8/SC1_DAT/LCD_COM2, 19 PD.9/PWM0_CH3/SC1_RST/LCD_COM1, 20 PD.10/TC1/PWM0_CH2/LCD_COM0, 21 VLCD, 22 PD.13/INT1/LCD_V1, 23 PD.14/LCD_V2, 24 PD.15/LCD_V3, 25 nRESET, 26 LDO_CAP, 27 VDD, 28 PF.0/X32_IN, 29 PF.1/X32_OUT, 30 VSS, 31 PF.2/XT1_IN, 32 PF.3/XT1_OUT, 33 AVSS, 34 PA.0/AD0, 35 PA.1/AD1/ACMP0_P3/ACMP0_CHDIS, 36 PA.2/INT0/AD2/ACMP0_P2/SC0_CLK/ACMP0_CHDIS, 37 PA.3/INT1/AD3/ACMP0_P1/SC0_DAT/ACMP0_CHDIS, 38 PA.4/AD4/ACMP0_P0/SC0_CD/ACMP0_CHDIS, 39 PA.5/AD5/ACMP0_N/SC0_PWR/I2C1_SDA/SPI1_SS0/ACMP0_CHDIS, 40 PA.6/AD6/ACMP0_OUT/SC0_RST/ACMP0_CHDIS, 41 VREF, 42 AVDD, 43 PF.4/ICE_CLK, 44 PF.5/ICE_DAT, 45 PA.12/ACMP1_P/I2C0_SCL/SPI1_MOSI0/UART0_TXD/LCD_SEG19, 46 PA.13/ACMP1_N/I2C0_SDA/SPI1_MISO0/UART0_RXD/LCD_SEG18, 47 PA.14/I2C1_SCL/SPI1_CLK/LCD_SEG17/ACMP0_CHDIS, 48 PA.15/TC3/ACMP1_OUT/I2C1_SDA/SPI1_SS0/LCD_SEG16

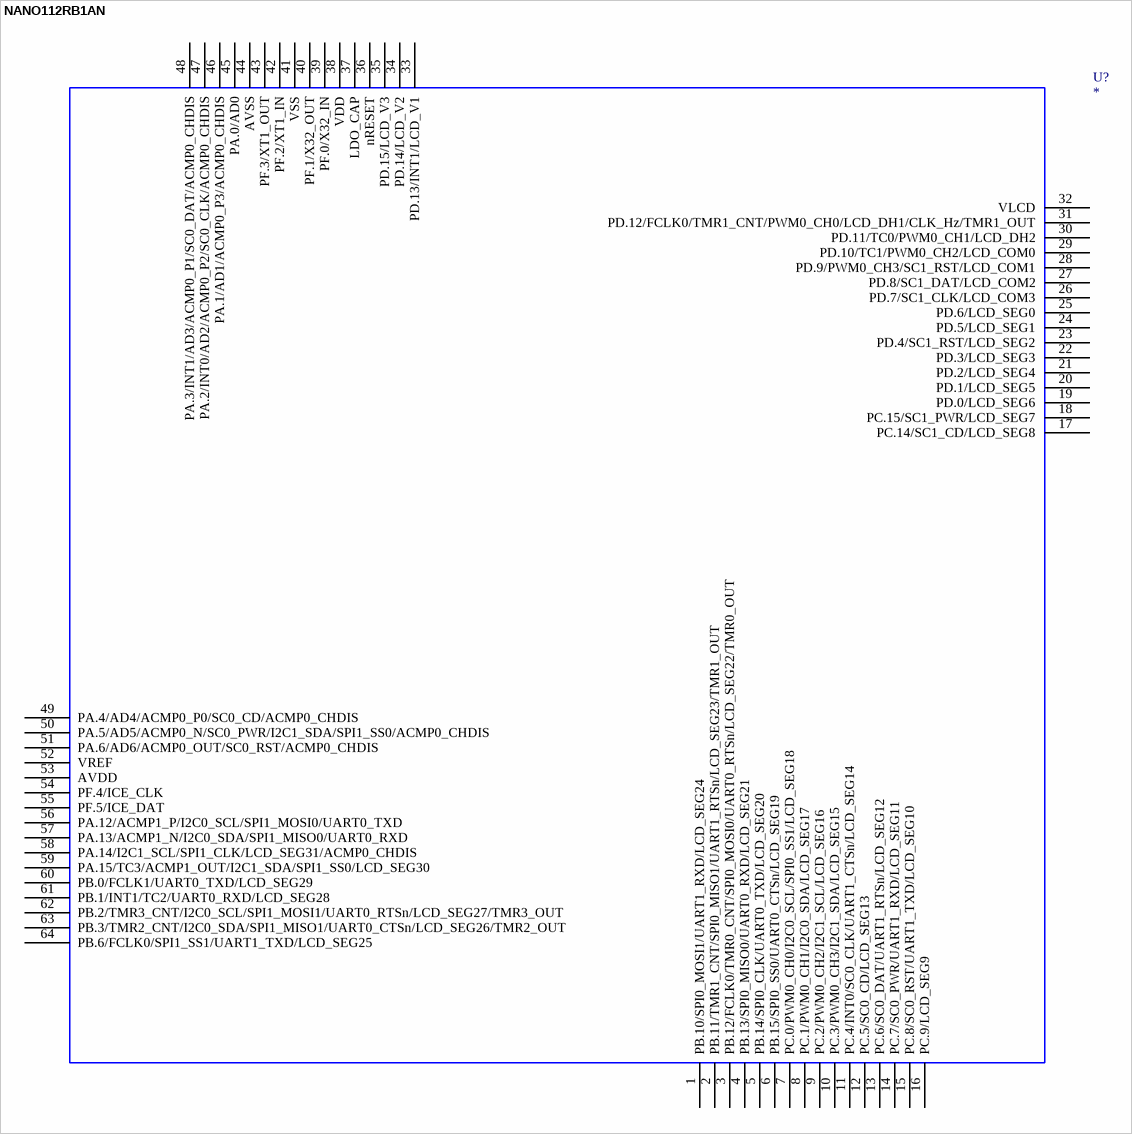
[diagram p80: symbol NANO112RB1AN]

## NANO112RB1AN
designator U?
OriginalSymbolOrigin: (0,0)
footprint MCU_LQFP_64_10x10
pins: 1 PB.10/SPI0_MOSI1/UART1_RXD/LCD_SEG24, 2 PB.11/TMR1_CNT/SPI0_MISO1/UART1_RTSn/LCD_SEG23/TMR1_OUT, 3 PB.12/FCLK0/TMR0_CNT/SPI0_MOSI0/UART0_RTSn/LCD_SEG22/TMR0_OUT, 4 PB.13/SPI0_MISO0/UART0_RXD/LCD_SEG21, 5 PB.14/SPI0_CLK/UART0_TXD/LCD_SEG20, 6 PB.15/SPI0_SS0/UART0_CTSn/LCD_SEG19, 7 PC.0/PWM0_CH0/I2C0_SCL/SPI0_SS1/LCD_SEG18, 8 PC.1/PWM0_CH1/I2C0_SDA/LCD_SEG17, 9 PC.2/PWM0_CH2/I2C1_SCL/LCD_SEG16, 10 PC.3/PWM0_CH3/I2C1_SDA/LCD_SEG15, 11 PC.4/INT0/SC0_CLK/UART1_CTSn/LCD_SEG14, 12 PC.5/SC0_CD/LCD_SEG13, 13 PC.6/SC0_DAT/UART1_RTSn/LCD_SEG12, 14 PC.7/SC0_PWR/UART1_RXD/LCD_SEG11, 15 PC.8/SC0_RST/UART1_TXD/LCD_SEG10, 16 PC.9/LCD_SEG9, 17 PC.14/SC1_CD/LCD_SEG8, 18 PC.15/SC1_PWR/LCD_SEG7, 19 PD.0/LCD_SEG6, 20 PD.1/LCD_SEG5, 21 PD.2/LCD_SEG4, 22 PD.3/LCD_SEG3, 23 PD.4/SC1_RST/LCD_SEG2, 24 PD.5/LCD_SEG1, 25 PD.6/LCD_SEG0, 26 PD.7/SC1_CLK/LCD_COM3, 27 PD.8/SC1_DAT/LCD_COM2, 28 PD.9/PWM0_CH3/SC1_RST/LCD_COM1, 29 PD.10/TC1/PWM0_CH2/LCD_COM0, 30 PD.11/TC0/PWM0_CH1/LCD_DH2, 31 PD.12/FCLK0/TMR1_CNT/PWM0_CH0/LCD_DH1/CLK_Hz/TMR1_OUT, 32 VLCD, 33 PD.13/INT1/LCD_V1, 34 PD.14/LCD_V2, 35 PD.15/LCD_V3, 36 nRESET, 37 LDO_CAP, 38 VDD, 39 PF.0/X32_IN, 40 PF.1/X32_OUT, 41 VSS, 42 PF.2/XT1_IN, 43 PF.3/XT1_OUT, 44 AVSS, 45 PA.0/AD0, 46 PA.1/AD1/ACMP0_P3/ACMP0_CHDIS, 47 PA.2/INT0/AD2/ACMP0_P2/SC0_CLK/ACMP0_CHDIS, 48 PA.3/INT1/AD3/ACMP0_P1/SC0_DAT/ACMP0_CHDIS, 49 PA.4/AD4/ACMP0_P0/SC0_CD/ACMP0_CHDIS, 50 PA.5/AD5/ACMP0_N/SC0_PWR/I2C1_SDA/SPI1_SS0/ACMP0_CHDIS, 51 PA.6/AD6/ACMP0_OUT/SC0_RST/ACMP0_CHDIS, 52 VREF, 53 AVDD, 54 PF.4/ICE_CLK, 55 PF.5/ICE_DAT, 56 PA.12/ACMP1_P/I2C0_SCL/SPI1_MOSI0/UART0_TXD, 57 PA.13/ACMP1_N/I2C0_SDA/SPI1_MISO0/UART0_RXD, 58 PA.14/I2C1_SCL/SPI1_CLK/LCD_SEG31/ACMP0_CHDIS, 59 PA.15/TC3/ACMP1_OUT/I2C1_SDA/SPI1_SS0/LCD_SEG30, 60 PB.0/FCLK1/UART0_TXD/LCD_SEG29, 61 PB.1/INT1/TC2/UART0_RXD/LCD_SEG28, 62 PB.2/TMR3_CNT/I2C0_SCL/SPI1_MOSI1/UART0_RTSn/LCD_SEG27/TMR3_OUT, 63 PB.3/TMR2_CNT/I2C0_SDA/SPI1_MISO1/UART0_CTSn/LCD_SEG26/TMR2_OUT, 64 PB.6/FCLK0/SPI1_SS1/UART1_TXD/LCD_SEG25

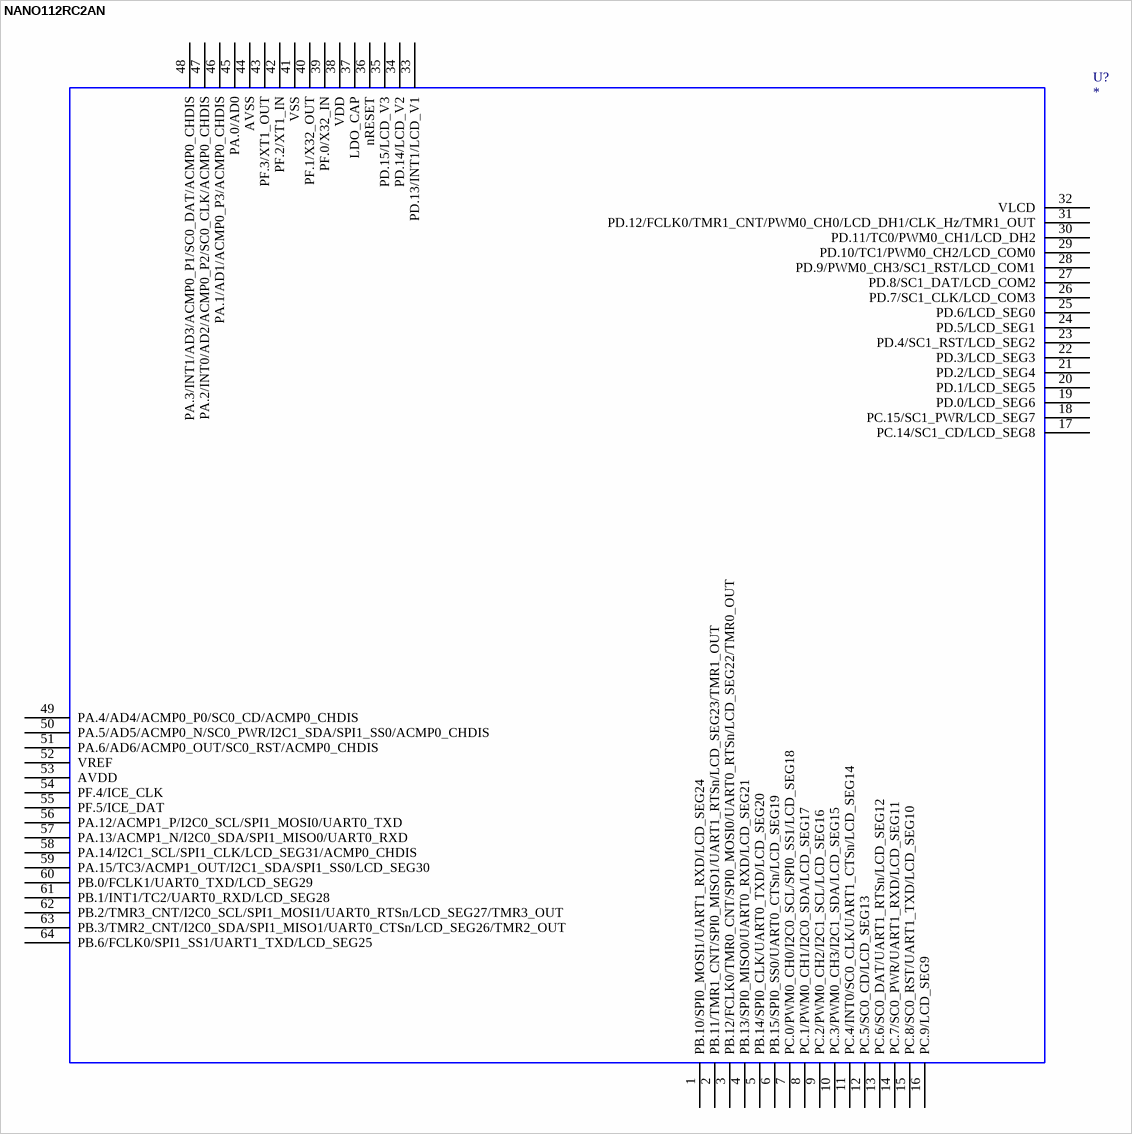
[diagram p81: symbol NANO112RC2AN]

## NANO112RC2AN
designator U?
OriginalSymbolOrigin: (0,0)
footprint MCU_LQFP_64_10x10
pins: 1 PB.10/SPI0_MOSI1/UART1_RXD/LCD_SEG24, 2 PB.11/TMR1_CNT/SPI0_MISO1/UART1_RTSn/LCD_SEG23/TMR1_OUT, 3 PB.12/FCLK0/TMR0_CNT/SPI0_MOSI0/UART0_RTSn/LCD_SEG22/TMR0_OUT, 4 PB.13/SPI0_MISO0/UART0_RXD/LCD_SEG21, 5 PB.14/SPI0_CLK/UART0_TXD/LCD_SEG20, 6 PB.15/SPI0_SS0/UART0_CTSn/LCD_SEG19, 7 PC.0/PWM0_CH0/I2C0_SCL/SPI0_SS1/LCD_SEG18, 8 PC.1/PWM0_CH1/I2C0_SDA/LCD_SEG17, 9 PC.2/PWM0_CH2/I2C1_SCL/LCD_SEG16, 10 PC.3/PWM0_CH3/I2C1_SDA/LCD_SEG15, 11 PC.4/INT0/SC0_CLK/UART1_CTSn/LCD_SEG14, 12 PC.5/SC0_CD/LCD_SEG13, 13 PC.6/SC0_DAT/UART1_RTSn/LCD_SEG12, 14 PC.7/SC0_PWR/UART1_RXD/LCD_SEG11, 15 PC.8/SC0_RST/UART1_TXD/LCD_SEG10, 16 PC.9/LCD_SEG9, 17 PC.14/SC1_CD/LCD_SEG8, 18 PC.15/SC1_PWR/LCD_SEG7, 19 PD.0/LCD_SEG6, 20 PD.1/LCD_SEG5, 21 PD.2/LCD_SEG4, 22 PD.3/LCD_SEG3, 23 PD.4/SC1_RST/LCD_SEG2, 24 PD.5/LCD_SEG1, 25 PD.6/LCD_SEG0, 26 PD.7/SC1_CLK/LCD_COM3, 27 PD.8/SC1_DAT/LCD_COM2, 28 PD.9/PWM0_CH3/SC1_RST/LCD_COM1, 29 PD.10/TC1/PWM0_CH2/LCD_COM0, 30 PD.11/TC0/PWM0_CH1/LCD_DH2, 31 PD.12/FCLK0/TMR1_CNT/PWM0_CH0/LCD_DH1/CLK_Hz/TMR1_OUT, 32 VLCD, 33 PD.13/INT1/LCD_V1, 34 PD.14/LCD_V2, 35 PD.15/LCD_V3, 36 nRESET, 37 LDO_CAP, 38 VDD, 39 PF.0/X32_IN, 40 PF.1/X32_OUT, 41 VSS, 42 PF.2/XT1_IN, 43 PF.3/XT1_OUT, 44 AVSS, 45 PA.0/AD0, 46 PA.1/AD1/ACMP0_P3/ACMP0_CHDIS, 47 PA.2/INT0/AD2/ACMP0_P2/SC0_CLK/ACMP0_CHDIS, 48 PA.3/INT1/AD3/ACMP0_P1/SC0_DAT/ACMP0_CHDIS, 49 PA.4/AD4/ACMP0_P0/SC0_CD/ACMP0_CHDIS, 50 PA.5/AD5/ACMP0_N/SC0_PWR/I2C1_SDA/SPI1_SS0/ACMP0_CHDIS, 51 PA.6/AD6/ACMP0_OUT/SC0_RST/ACMP0_CHDIS, 52 VREF, 53 AVDD, 54 PF.4/ICE_CLK, 55 PF.5/ICE_DAT, 56 PA.12/ACMP1_P/I2C0_SCL/SPI1_MOSI0/UART0_TXD, 57 PA.13/ACMP1_N/I2C0_SDA/SPI1_MISO0/UART0_RXD, 58 PA.14/I2C1_SCL/SPI1_CLK/LCD_SEG31/ACMP0_CHDIS, 59 PA.15/TC3/ACMP1_OUT/I2C1_SDA/SPI1_SS0/LCD_SEG30, 60 PB.0/FCLK1/UART0_TXD/LCD_SEG29, 61 PB.1/INT1/TC2/UART0_RXD/LCD_SEG28, 62 PB.2/TMR3_CNT/I2C0_SCL/SPI1_MOSI1/UART0_RTSn/LCD_SEG27/TMR3_OUT, 63 PB.3/TMR2_CNT/I2C0_SDA/SPI1_MISO1/UART0_CTSn/LCD_SEG26/TMR2_OUT, 64 PB.6/FCLK0/SPI1_SS1/UART1_TXD/LCD_SEG25

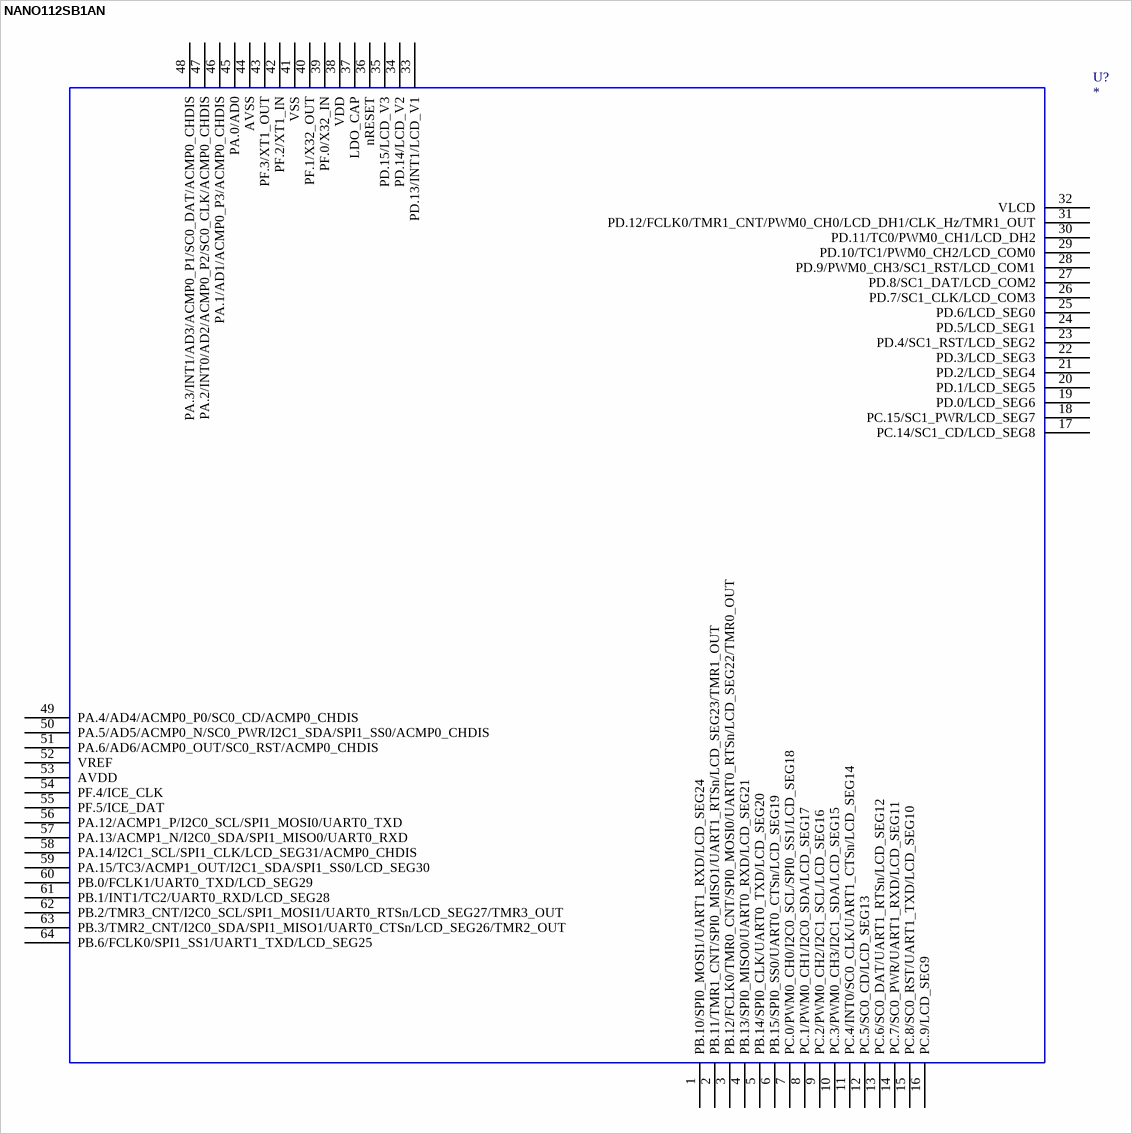
[diagram p82: symbol NANO112SB1AN]

## NANO112SB1AN
designator U?
OriginalSymbolOrigin: (0,0)
footprint MCU_LQFP_64_7x7
pins: 1 PB.10/SPI0_MOSI1/UART1_RXD/LCD_SEG24, 2 PB.11/TMR1_CNT/SPI0_MISO1/UART1_RTSn/LCD_SEG23/TMR1_OUT, 3 PB.12/FCLK0/TMR0_CNT/SPI0_MOSI0/UART0_RTSn/LCD_SEG22/TMR0_OUT, 4 PB.13/SPI0_MISO0/UART0_RXD/LCD_SEG21, 5 PB.14/SPI0_CLK/UART0_TXD/LCD_SEG20, 6 PB.15/SPI0_SS0/UART0_CTSn/LCD_SEG19, 7 PC.0/PWM0_CH0/I2C0_SCL/SPI0_SS1/LCD_SEG18, 8 PC.1/PWM0_CH1/I2C0_SDA/LCD_SEG17, 9 PC.2/PWM0_CH2/I2C1_SCL/LCD_SEG16, 10 PC.3/PWM0_CH3/I2C1_SDA/LCD_SEG15, 11 PC.4/INT0/SC0_CLK/UART1_CTSn/LCD_SEG14, 12 PC.5/SC0_CD/LCD_SEG13, 13 PC.6/SC0_DAT/UART1_RTSn/LCD_SEG12, 14 PC.7/SC0_PWR/UART1_RXD/LCD_SEG11, 15 PC.8/SC0_RST/UART1_TXD/LCD_SEG10, 16 PC.9/LCD_SEG9, 17 PC.14/SC1_CD/LCD_SEG8, 18 PC.15/SC1_PWR/LCD_SEG7, 19 PD.0/LCD_SEG6, 20 PD.1/LCD_SEG5, 21 PD.2/LCD_SEG4, 22 PD.3/LCD_SEG3, 23 PD.4/SC1_RST/LCD_SEG2, 24 PD.5/LCD_SEG1, 25 PD.6/LCD_SEG0, 26 PD.7/SC1_CLK/LCD_COM3, 27 PD.8/SC1_DAT/LCD_COM2, 28 PD.9/PWM0_CH3/SC1_RST/LCD_COM1, 29 PD.10/TC1/PWM0_CH2/LCD_COM0, 30 PD.11/TC0/PWM0_CH1/LCD_DH2, 31 PD.12/FCLK0/TMR1_CNT/PWM0_CH0/LCD_DH1/CLK_Hz/TMR1_OUT, 32 VLCD, 33 PD.13/INT1/LCD_V1, 34 PD.14/LCD_V2, 35 PD.15/LCD_V3, 36 nRESET, 37 LDO_CAP, 38 VDD, 39 PF.0/X32_IN, 40 PF.1/X32_OUT, 41 VSS, 42 PF.2/XT1_IN, 43 PF.3/XT1_OUT, 44 AVSS, 45 PA.0/AD0, 46 PA.1/AD1/ACMP0_P3/ACMP0_CHDIS, 47 PA.2/INT0/AD2/ACMP0_P2/SC0_CLK/ACMP0_CHDIS, 48 PA.3/INT1/AD3/ACMP0_P1/SC0_DAT/ACMP0_CHDIS, 49 PA.4/AD4/ACMP0_P0/SC0_CD/ACMP0_CHDIS, 50 PA.5/AD5/ACMP0_N/SC0_PWR/I2C1_SDA/SPI1_SS0/ACMP0_CHDIS, 51 PA.6/AD6/ACMP0_OUT/SC0_RST/ACMP0_CHDIS, 52 VREF, 53 AVDD, 54 PF.4/ICE_CLK, 55 PF.5/ICE_DAT, 56 PA.12/ACMP1_P/I2C0_SCL/SPI1_MOSI0/UART0_TXD, 57 PA.13/ACMP1_N/I2C0_SDA/SPI1_MISO0/UART0_RXD, 58 PA.14/I2C1_SCL/SPI1_CLK/LCD_SEG31/ACMP0_CHDIS, 59 PA.15/TC3/ACMP1_OUT/I2C1_SDA/SPI1_SS0/LCD_SEG30, 60 PB.0/FCLK1/UART0_TXD/LCD_SEG29, 61 PB.1/INT1/TC2/UART0_RXD/LCD_SEG28, 62 PB.2/TMR3_CNT/I2C0_SCL/SPI1_MOSI1/UART0_RTSn/LCD_SEG27/TMR3_OUT, 63 PB.3/TMR2_CNT/I2C0_SDA/SPI1_MISO1/UART0_CTSn/LCD_SEG26/TMR2_OUT, 64 PB.6/FCLK0/SPI1_SS1/UART1_TXD/LCD_SEG25

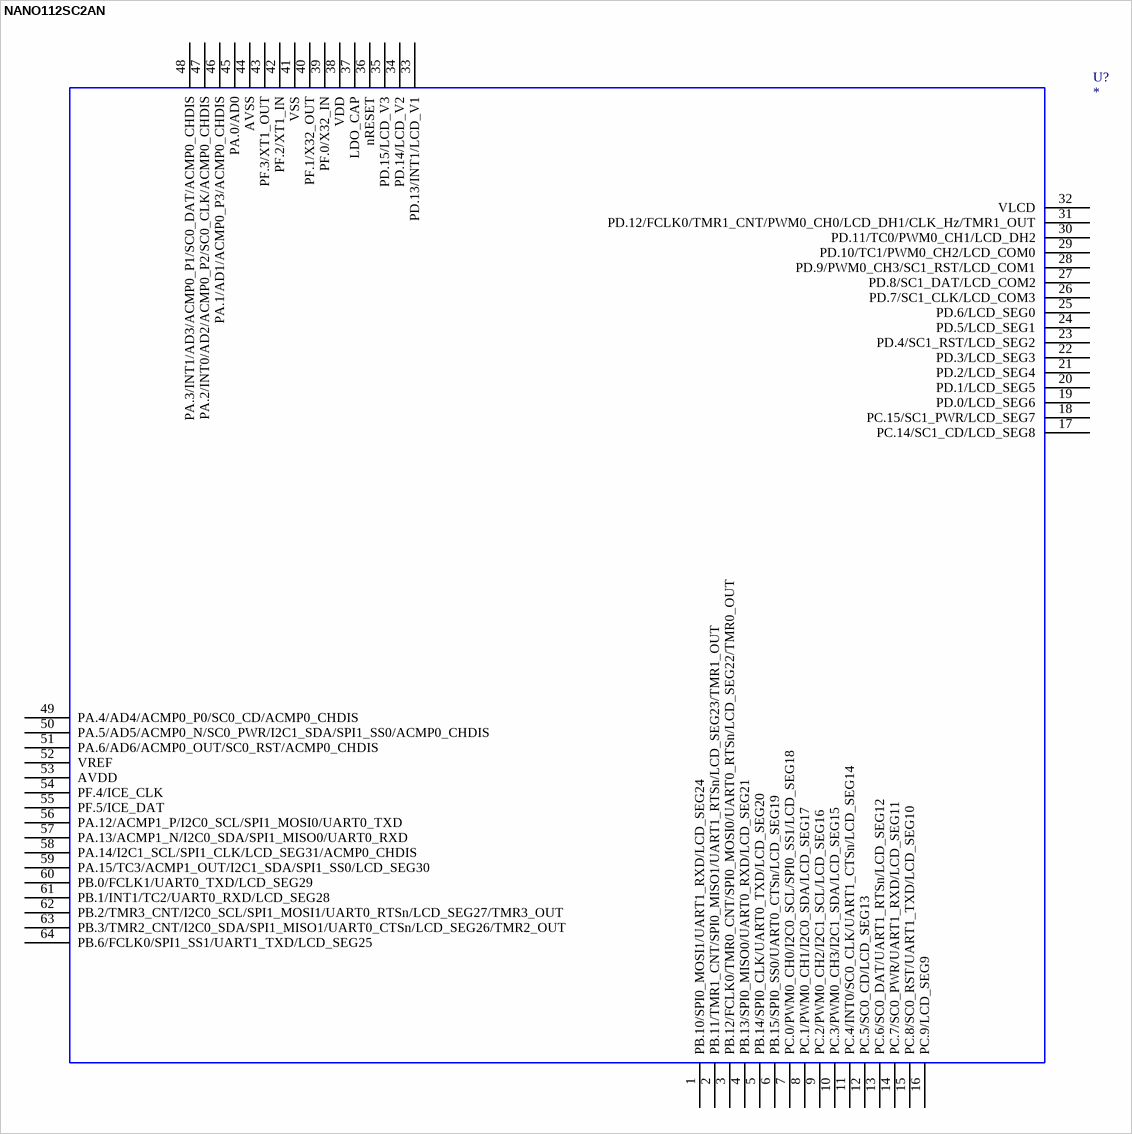
[diagram p83: symbol NANO112SC2AN]

## NANO112SC2AN
designator U?
OriginalSymbolOrigin: (0,0)
footprint MCU_LQFP_64_7x7
pins: 1 PB.10/SPI0_MOSI1/UART1_RXD/LCD_SEG24, 2 PB.11/TMR1_CNT/SPI0_MISO1/UART1_RTSn/LCD_SEG23/TMR1_OUT, 3 PB.12/FCLK0/TMR0_CNT/SPI0_MOSI0/UART0_RTSn/LCD_SEG22/TMR0_OUT, 4 PB.13/SPI0_MISO0/UART0_RXD/LCD_SEG21, 5 PB.14/SPI0_CLK/UART0_TXD/LCD_SEG20, 6 PB.15/SPI0_SS0/UART0_CTSn/LCD_SEG19, 7 PC.0/PWM0_CH0/I2C0_SCL/SPI0_SS1/LCD_SEG18, 8 PC.1/PWM0_CH1/I2C0_SDA/LCD_SEG17, 9 PC.2/PWM0_CH2/I2C1_SCL/LCD_SEG16, 10 PC.3/PWM0_CH3/I2C1_SDA/LCD_SEG15, 11 PC.4/INT0/SC0_CLK/UART1_CTSn/LCD_SEG14, 12 PC.5/SC0_CD/LCD_SEG13, 13 PC.6/SC0_DAT/UART1_RTSn/LCD_SEG12, 14 PC.7/SC0_PWR/UART1_RXD/LCD_SEG11, 15 PC.8/SC0_RST/UART1_TXD/LCD_SEG10, 16 PC.9/LCD_SEG9, 17 PC.14/SC1_CD/LCD_SEG8, 18 PC.15/SC1_PWR/LCD_SEG7, 19 PD.0/LCD_SEG6, 20 PD.1/LCD_SEG5, 21 PD.2/LCD_SEG4, 22 PD.3/LCD_SEG3, 23 PD.4/SC1_RST/LCD_SEG2, 24 PD.5/LCD_SEG1, 25 PD.6/LCD_SEG0, 26 PD.7/SC1_CLK/LCD_COM3, 27 PD.8/SC1_DAT/LCD_COM2, 28 PD.9/PWM0_CH3/SC1_RST/LCD_COM1, 29 PD.10/TC1/PWM0_CH2/LCD_COM0, 30 PD.11/TC0/PWM0_CH1/LCD_DH2, 31 PD.12/FCLK0/TMR1_CNT/PWM0_CH0/LCD_DH1/CLK_Hz/TMR1_OUT, 32 VLCD, 33 PD.13/INT1/LCD_V1, 34 PD.14/LCD_V2, 35 PD.15/LCD_V3, 36 nRESET, 37 LDO_CAP, 38 VDD, 39 PF.0/X32_IN, 40 PF.1/X32_OUT, 41 VSS, 42 PF.2/XT1_IN, 43 PF.3/XT1_OUT, 44 AVSS, 45 PA.0/AD0, 46 PA.1/AD1/ACMP0_P3/ACMP0_CHDIS, 47 PA.2/INT0/AD2/ACMP0_P2/SC0_CLK/ACMP0_CHDIS, 48 PA.3/INT1/AD3/ACMP0_P1/SC0_DAT/ACMP0_CHDIS, 49 PA.4/AD4/ACMP0_P0/SC0_CD/ACMP0_CHDIS, 50 PA.5/AD5/ACMP0_N/SC0_PWR/I2C1_SDA/SPI1_SS0/ACMP0_CHDIS, 51 PA.6/AD6/ACMP0_OUT/SC0_RST/ACMP0_CHDIS, 52 VREF, 53 AVDD, 54 PF.4/ICE_CLK, 55 PF.5/ICE_DAT, 56 PA.12/ACMP1_P/I2C0_SCL/SPI1_MOSI0/UART0_TXD, 57 PA.13/ACMP1_N/I2C0_SDA/SPI1_MISO0/UART0_RXD, 58 PA.14/I2C1_SCL/SPI1_CLK/LCD_SEG31/ACMP0_CHDIS, 59 PA.15/TC3/ACMP1_OUT/I2C1_SDA/SPI1_SS0/LCD_SEG30, 60 PB.0/FCLK1/UART0_TXD/LCD_SEG29, 61 PB.1/INT1/TC2/UART0_RXD/LCD_SEG28, 62 PB.2/TMR3_CNT/I2C0_SCL/SPI1_MOSI1/UART0_RTSn/LCD_SEG27/TMR3_OUT, 63 PB.3/TMR2_CNT/I2C0_SDA/SPI1_MISO1/UART0_CTSn/LCD_SEG26/TMR2_OUT, 64 PB.6/FCLK0/SPI1_SS1/UART1_TXD/LCD_SEG25

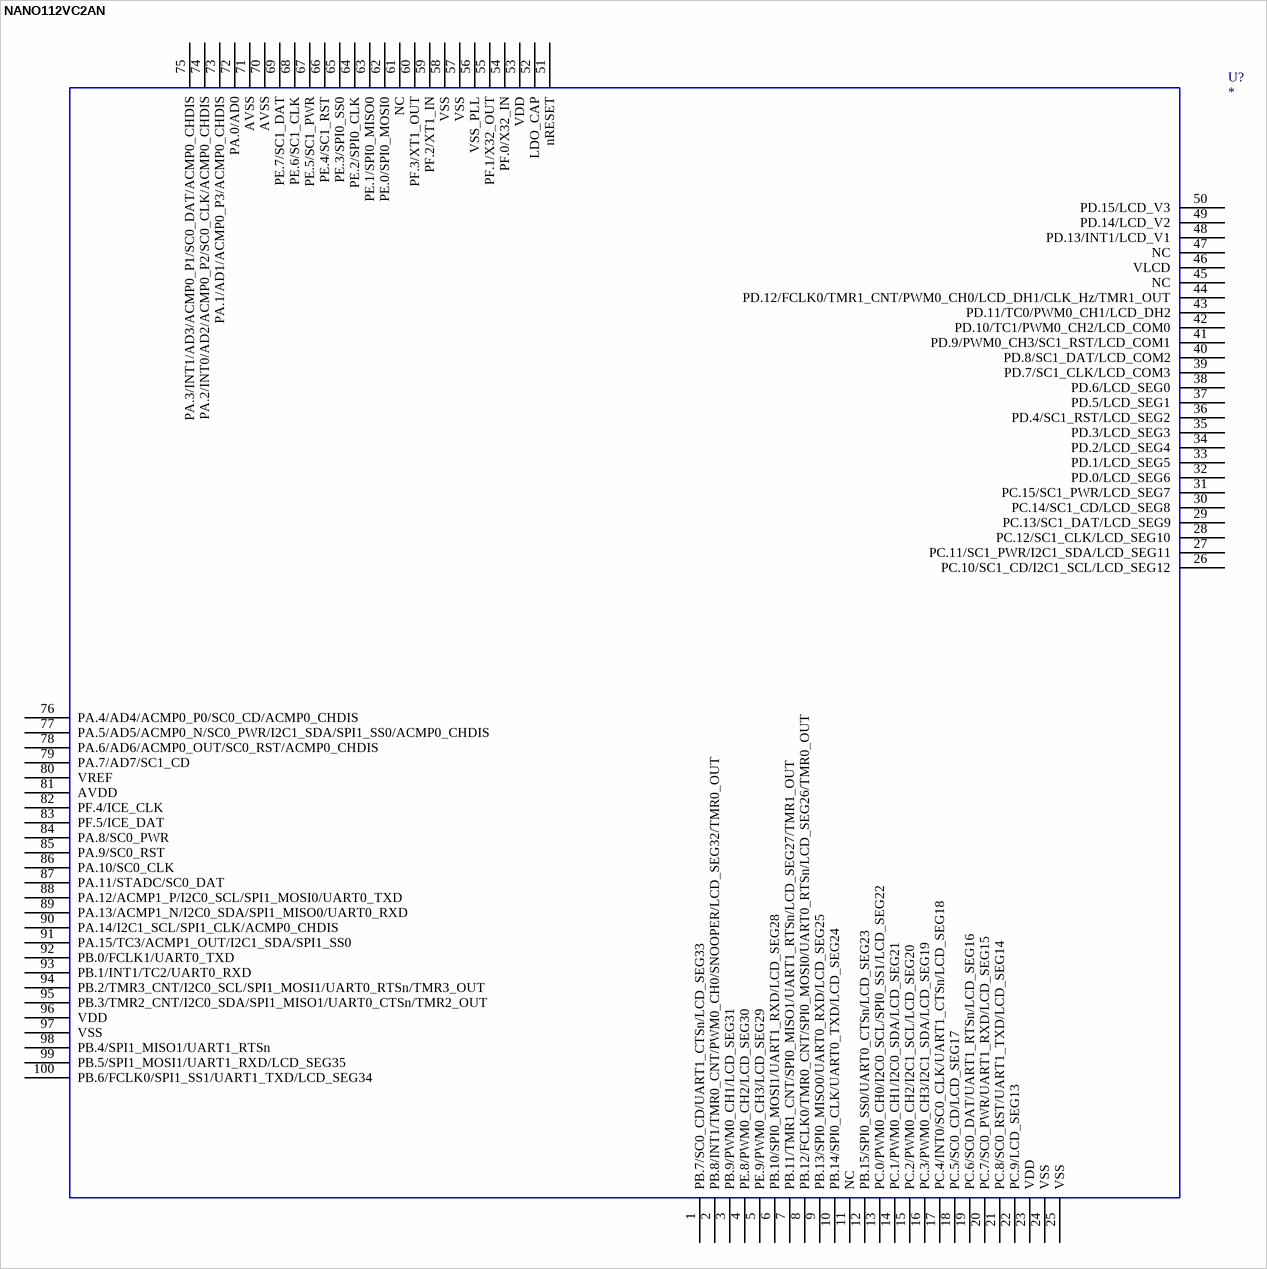
[diagram p84: symbol NANO112VC2AN]

## NANO112VC2AN
designator U?
OriginalSymbolOrigin: (0,0)
footprint MCU_LQFP_100
pins: 1 PB.7/SC0_CD/UART1_CTSn/LCD_SEG33, 2 PB.8/INT1/TMR0_CNT/PWM0_CH0/SNOOPER/LCD_SEG32/TMR0_OUT, 3 PB.9/PWM0_CH1/LCD_SEG31, 4 PE.8/PWM0_CH2/LCD_SEG30, 5 PE.9/PWM0_CH3/LCD_SEG29, 6 PB.10/SPI0_MOSI1/UART1_RXD/LCD_SEG28, 7 PB.11/TMR1_CNT/SPI0_MISO1/UART1_RTSn/LCD_SEG27/TMR1_OUT, 8 PB.12/FCLK0/TMR0_CNT/SPI0_MOSI0/UART0_RTSn/LCD_SEG26/TMR0_OUT, 9 PB.13/SPI0_MISO0/UART0_RXD/LCD_SEG25, 10 PB.14/SPI0_CLK/UART0_TXD/LCD_SEG24, 11 NC, 12 PB.15/SPI0_SS0/UART0_CTSn/LCD_SEG23, 13 PC.0/PWM0_CH0/I2C0_SCL/SPI0_SS1/LCD_SEG22, 14 PC.1/PWM0_CH1/I2C0_SDA/LCD_SEG21, 15 PC.2/PWM0_CH2/I2C1_SCL/LCD_SEG20, 16 PC.3/PWM0_CH3/I2C1_SDA/LCD_SEG19, 17 PC.4/INT0/SC0_CLK/UART1_CTSn/LCD_SEG18, 18 PC.5/SC0_CD/LCD_SEG17, 19 PC.6/SC0_DAT/UART1_RTSn/LCD_SEG16, 20 PC.7/SC0_PWR/UART1_RXD/LCD_SEG15, 21 PC.8/SC0_RST/UART1_TXD/LCD_SEG14, 22 PC.9/LCD_SEG13, 23 VDD, 24 VSS, 25 VSS, 26 PC.10/SC1_CD/I2C1_SCL/LCD_SEG12, 27 PC.11/SC1_PWR/I2C1_SDA/LCD_SEG11, 28 PC.12/SC1_CLK/LCD_SEG10, 29 PC.13/SC1_DAT/LCD_SEG9, 30 PC.14/SC1_CD/LCD_SEG8, 31 PC.15/SC1_PWR/LCD_SEG7, 32 PD.0/LCD_SEG6, 33 PD.1/LCD_SEG5, 34 PD.2/LCD_SEG4, 35 PD.3/LCD_SEG3, 36 PD.4/SC1_RST/LCD_SEG2, 37 PD.5/LCD_SEG1, 38 PD.6/LCD_SEG0, 39 PD.7/SC1_CLK/LCD_COM3, 40 PD.8/SC1_DAT/LCD_COM2, 41 PD.9/PWM0_CH3/SC1_RST/LCD_COM1, 42 PD.10/TC1/PWM0_CH2/LCD_COM0, 43 PD.11/TC0/PWM0_CH1/LCD_DH2, 44 PD.12/FCLK0/TMR1_CNT/PWM0_CH0/LCD_DH1/CLK_Hz/TMR1_OUT, 45 NC, 46 VLCD, 47 NC, 48 PD.13/INT1/LCD_V1, 49 PD.14/LCD_V2, 50 PD.15/LCD_V3, 51 nRESET, 52 LDO_CAP, 53 VDD, 54 PF.0/X32_IN, 55 PF.1/X32_OUT, 56 VSS_PLL, 57 VSS, 58 VSS, 59 PF.2/XT1_IN, 60 PF.3/XT1_OUT, 61 NC, 62 PE.0/SPI0_MOSI0, 63 PE.1/SPI0_MISO0, 64 PE.2/SPI0_CLK, 65 PE.3/SPI0_SS0, 66 PE.4/SC1_RST, 67 PE.5/SC1_PWR, 68 PE.6/SC1_CLK, 69 PE.7/SC1_DAT, 70 AVSS, 71 AVSS, 72 PA.0/AD0, 73 PA.1/AD1/ACMP0_P3/ACMP0_CHDIS, 74 PA.2/INT0/AD2/ACMP0_P2/SC0_CLK/ACMP0_CHDIS, 75 PA.3/INT1/AD3/ACMP0_P1/SC0_DAT/ACMP0_CHDIS, 76 PA.4/AD4/ACMP0_P0/SC0_CD/ACMP0_CHDIS, 77 PA.5/AD5/ACMP0_N/SC0_PWR/I2C1_SDA/SPI1_SS0/ACMP0_CHDIS, 78 PA.6/AD6/ACMP0_OUT/SC0_RST/ACMP0_CHDIS, 79 PA.7/AD7/SC1_CD, 80 VREF, 81 AVDD, 82 PF.4/ICE_CLK, 83 PF.5/ICE_DAT, 84 PA.8/SC0_PWR, 85 PA.9/SC0_RST, 86 PA.10/SC0_CLK, 87 PA.11/STADC/SC0_DAT, 88 PA.12/ACMP1_P/I2C0_SCL/SPI1_MOSI0/UART0_TXD, 89 PA.13/ACMP1_N/I2C0_SDA/SPI1_MISO0/UART0_RXD, 90 PA.14/I2C1_SCL/SPI1_CLK/ACMP0_CHDIS, 91 PA.15/TC3/ACMP1_OUT/I2C1_SDA/SPI1_SS0, 92 PB.0/FCLK1/UART0_TXD, 93 PB.1/INT1/TC2/UART0_RXD, 94 PB.2/TMR3_CNT/I2C0_SCL/SPI1_MOSI1/UART0_RTSn/TMR3_OUT, 95 PB.3/TMR2_CNT/I2C0_SDA/SPI1_MISO1/UART0_CTSn/TMR2_OUT, 96 VDD, 97 VSS, 98 PB.4/SPI1_MISO1/UART1_RTSn, 99 PB.5/SPI1_MOSI1/UART1_RXD/LCD_SEG35, 100 PB.6/FCLK0/SPI1_SS1/UART1_TXD/LCD_SEG34


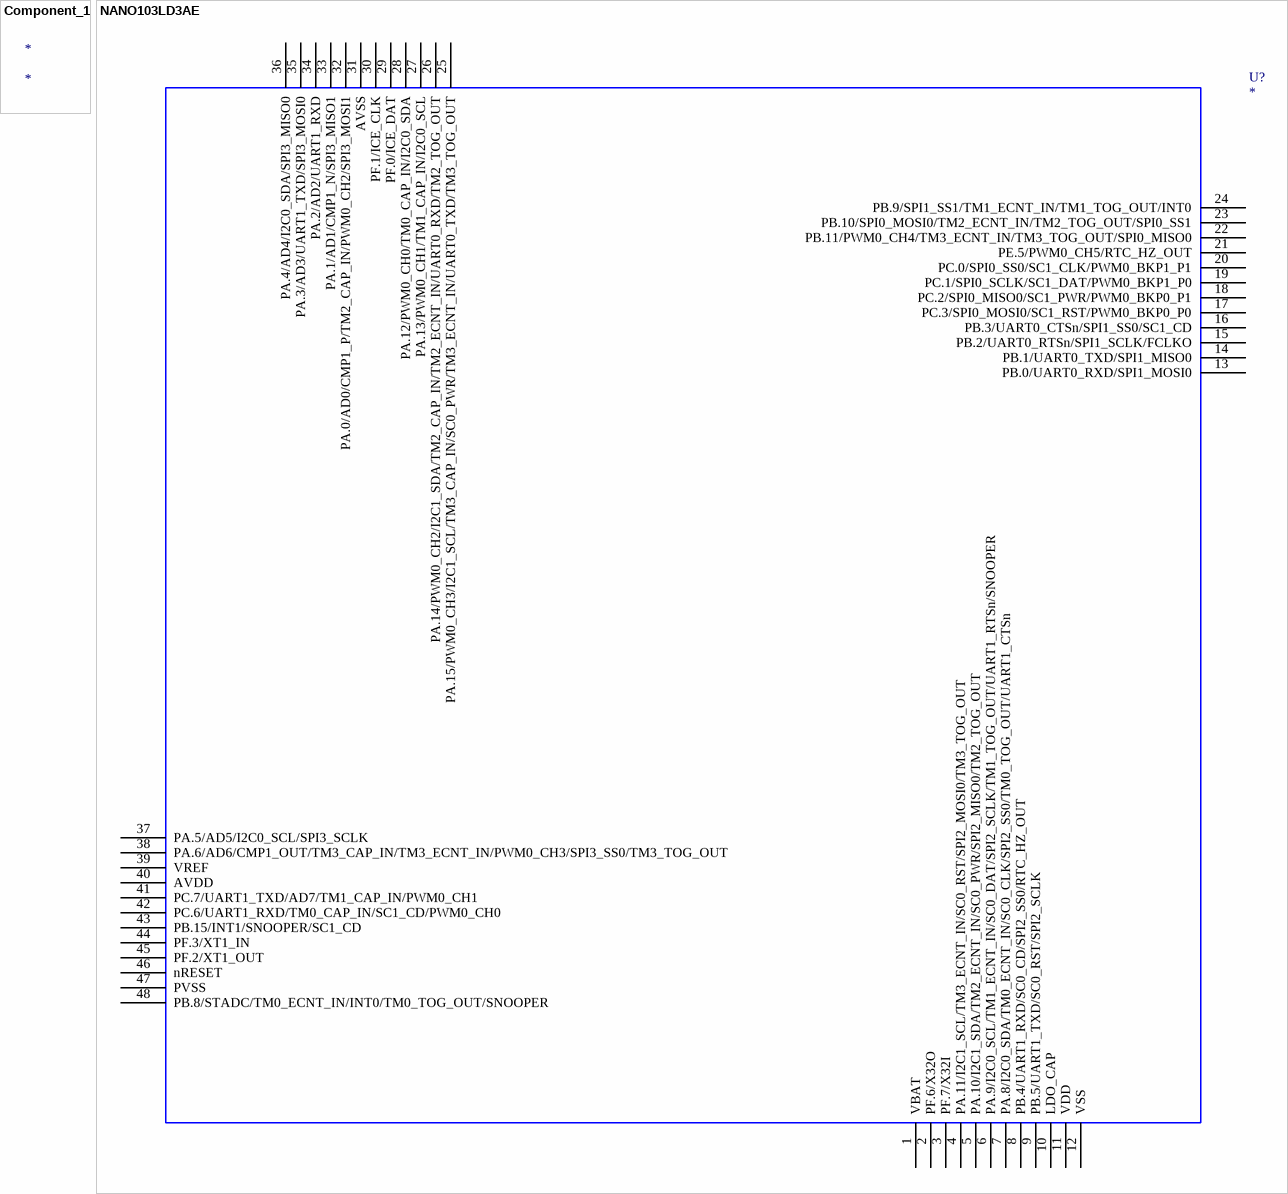
[diagram p85: symbols Component_1 to NANO103LD3AE]

## Component_1
designator *

## NANO103LD3AE
designator U?
OriginalSymbolOrigin: (0,0)
footprint MCU_LQFP_48
pins: 1 VBAT, 2 PF.6/X32O, 3 PF.7/X32I, 4 PA.11/I2C1_SCL/TM3_ECNT_IN/SC0_RST/SPI2_MOSI0/TM3_TOG_OUT, 5 PA.10/I2C1_SDA/TM2_ECNT_IN/SC0_PWR/SPI2_MISO0/TM2_TOG_OUT, 6 PA.9/I2C0_SCL/TM1_ECNT_IN/SC0_DAT/SPI2_SCLK/TM1_TOG_OUT/UART1_RTSn/SNOOPER, 7 PA.8/I2C0_SDA/TM0_ECNT_IN/SC0_CLK/SPI2_SS0/TM0_TOG_OUT/UART1_CTSn, 8 PB.4/UART1_RXD/SC0_CD/SPI2_SS0/RTC_HZ_OUT, 9 PB.5/UART1_TXD/SC0_RST/SPI2_SCLK, 10 LDO_CAP, 11 VDD, 12 VSS, 13 PB.0/UART0_RXD/SPI1_MOSI0, 14 PB.1/UART0_TXD/SPI1_MISO0, 15 PB.2/UART0_RTSn/SPI1_SCLK/FCLKO, 16 PB.3/UART0_CTSn/SPI1_SS0/SC1_CD, 17 PC.3/SPI0_MOSI0/SC1_RST/PWM0_BKP0_P0, 18 PC.2/SPI0_MISO0/SC1_PWR/PWM0_BKP0_P1, 19 PC.1/SPI0_SCLK/SC1_DAT/PWM0_BKP1_P0, 20 PC.0/SPI0_SS0/SC1_CLK/PWM0_BKP1_P1, 21 PE.5/PWM0_CH5/RTC_HZ_OUT, 22 PB.11/PWM0_CH4/TM3_ECNT_IN/TM3_TOG_OUT/SPI0_MISO0, 23 PB.10/SPI0_MOSI0/TM2_ECNT_IN/TM2_TOG_OUT/SPI0_SS1, 24 PB.9/SPI1_SS1/TM1_ECNT_IN/TM1_TOG_OUT/INT0, 25 PA.15/PWM0_CH3/I2C1_SCL/TM3_CAP_IN/SC0_PWR/TM3_ECNT_IN/UART0_TXD/TM3_TOG_OUT, 26 PA.14/PWM0_CH2/I2C1_SDA/TM2_CAP_IN/TM2_ECNT_IN/UART0_RXD/TM2_TOG_OUT, 27 PA.13/PWM0_CH1/TM1_CAP_IN/I2C0_SCL, 28 PA.12/PWM0_CH0/TM0_CAP_IN/I2C0_SDA, 29 PF.0/ICE_DAT, 30 PF.1/ICE_CLK, 31 AVSS, 32 PA.0/AD0/CMP1_P/TM2_CAP_IN/PWM0_CH2/SPI3_MOSI1, 33 PA.1/AD1/CMP1_N/SPI3_MISO1, 34 PA.2/AD2/UART1_RXD, 35 PA.3/AD3/UART1_TXD/SPI3_MOSI0, 36 PA.4/AD4/I2C0_SDA/SPI3_MISO0, 37 PA.5/AD5/I2C0_SCL/SPI3_SCLK, 38 PA.6/AD6/CMP1_OUT/TM3_CAP_IN/TM3_ECNT_IN/PWM0_CH3/SPI3_SS0/TM3_TOG_OUT, 39 VREF, 40 AVDD, 41 PC.7/UART1_TXD/AD7/TM1_CAP_IN/PWM0_CH1, 42 PC.6/UART1_RXD/TM0_CAP_IN/SC1_CD/PWM0_CH0, 43 PB.15/INT1/SNOOPER/SC1_CD, 44 PF.3/XT1_IN, 45 PF.2/XT1_OUT, 46 nRESET, 47 PVSS, 48 PB.8/STADC/TM0_ECNT_IN/INT0/TM0_TOG_OUT/SNOOPER

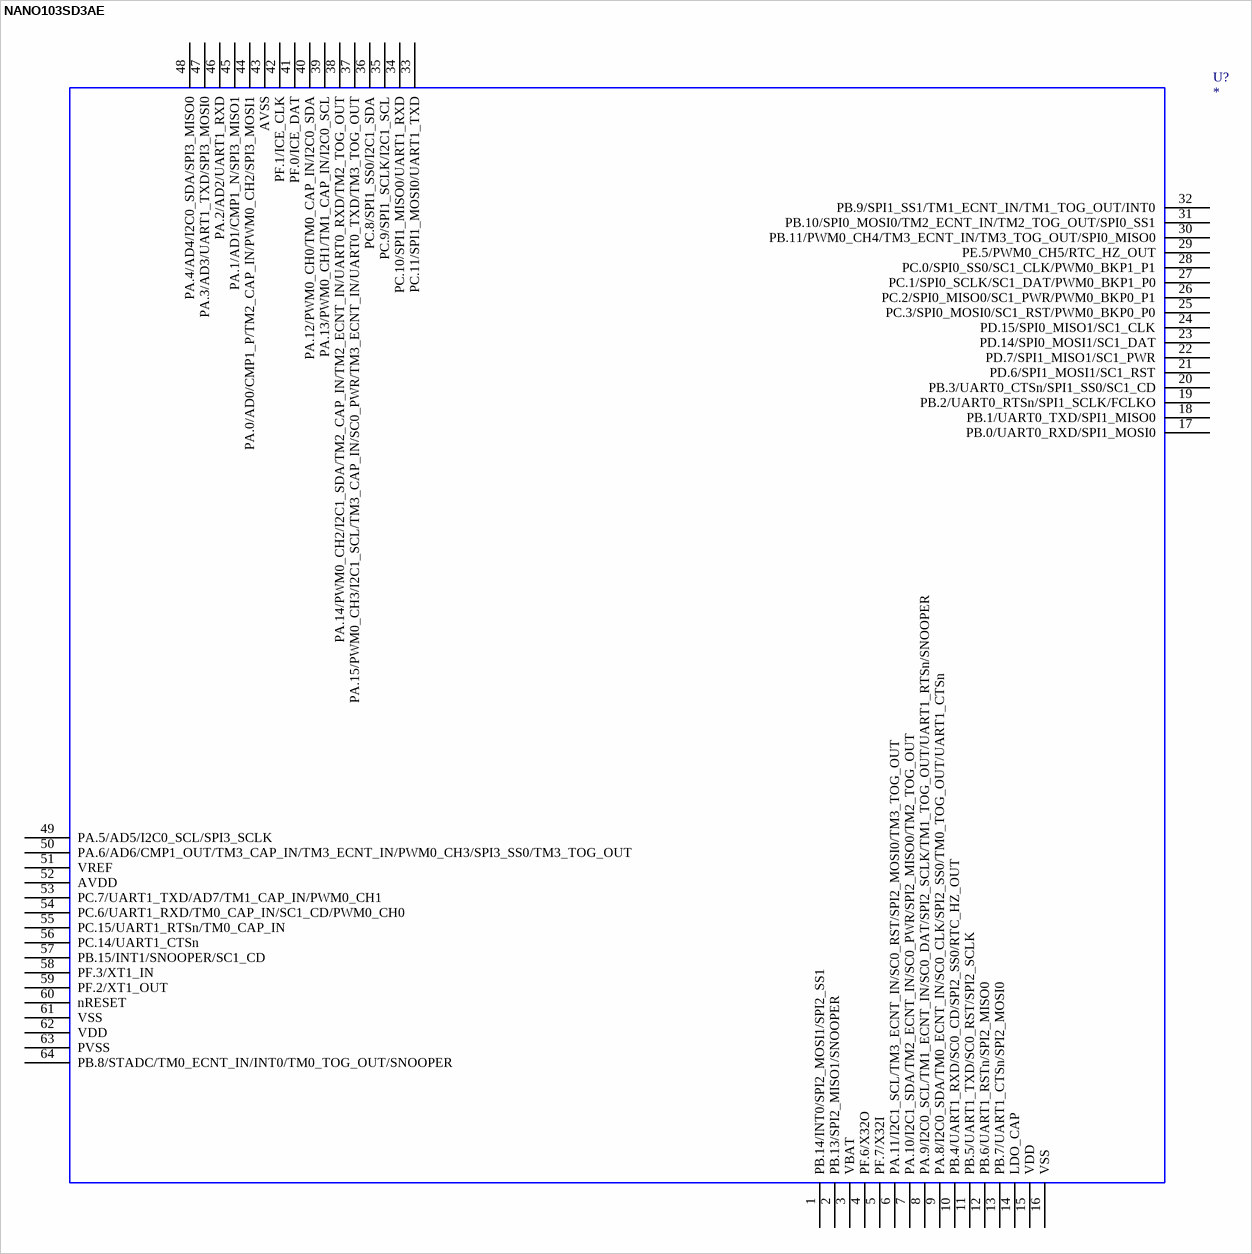
[diagram p86: symbol NANO103SD3AE]

## NANO103SD3AE
designator U?
OriginalSymbolOrigin: (0,0)
footprint MCU_LQFP_64_7x7
pins: 1 PB.14/INT0/SPI2_MOSI1/SPI2_SS1, 2 PB.13/SPI2_MISO1/SNOOPER, 3 VBAT, 4 PF.6/X32O, 5 PF.7/X32I, 6 PA.11/I2C1_SCL/TM3_ECNT_IN/SC0_RST/SPI2_MOSI0/TM3_TOG_OUT, 7 PA.10/I2C1_SDA/TM2_ECNT_IN/SC0_PWR/SPI2_MISO0/TM2_TOG_OUT, 8 PA.9/I2C0_SCL/TM1_ECNT_IN/SC0_DAT/SPI2_SCLK/TM1_TOG_OUT/UART1_RTSn/SNOOPER, 9 PA.8/I2C0_SDA/TM0_ECNT_IN/SC0_CLK/SPI2_SS0/TM0_TOG_OUT/UART1_CTSn, 10 PB.4/UART1_RXD/SC0_CD/SPI2_SS0/RTC_HZ_OUT, 11 PB.5/UART1_TXD/SC0_RST/SPI2_SCLK, 12 PB.6/UART1_RSTn/SPI2_MISO0, 13 PB.7/UART1_CTSn/SPI2_MOSI0, 14 LDO_CAP, 15 VDD, 16 VSS, 17 PB.0/UART0_RXD/SPI1_MOSI0, 18 PB.1/UART0_TXD/SPI1_MISO0, 19 PB.2/UART0_RTSn/SPI1_SCLK/FCLKO, 20 PB.3/UART0_CTSn/SPI1_SS0/SC1_CD, 21 PD.6/SPI1_MOSI1/SC1_RST, 22 PD.7/SPI1_MISO1/SC1_PWR, 23 PD.14/SPI0_MOSI1/SC1_DAT, 24 PD.15/SPI0_MISO1/SC1_CLK, 25 PC.3/SPI0_MOSI0/SC1_RST/PWM0_BKP0_P0, 26 PC.2/SPI0_MISO0/SC1_PWR/PWM0_BKP0_P1, 27 PC.1/SPI0_SCLK/SC1_DAT/PWM0_BKP1_P0, 28 PC.0/SPI0_SS0/SC1_CLK/PWM0_BKP1_P1, 29 PE.5/PWM0_CH5/RTC_HZ_OUT, 30 PB.11/PWM0_CH4/TM3_ECNT_IN/TM3_TOG_OUT/SPI0_MISO0, 31 PB.10/SPI0_MOSI0/TM2_ECNT_IN/TM2_TOG_OUT/SPI0_SS1, 32 PB.9/SPI1_SS1/TM1_ECNT_IN/TM1_TOG_OUT/INT0, 33 PC.11/SPI1_MOSI0/UART1_TXD, 34 PC.10/SPI1_MISO0/UART1_RXD, 35 PC.9/SPI1_SCLK/I2C1_SCL, 36 PC.8/SPI1_SS0/I2C1_SDA, 37 PA.15/PWM0_CH3/I2C1_SCL/TM3_CAP_IN/SC0_PWR/TM3_ECNT_IN/UART0_TXD/TM3_TOG_OUT, 38 PA.14/PWM0_CH2/I2C1_SDA/TM2_CAP_IN/TM2_ECNT_IN/UART0_RXD/TM2_TOG_OUT, 39 PA.13/PWM0_CH1/TM1_CAP_IN/I2C0_SCL, 40 PA.12/PWM0_CH0/TM0_CAP_IN/I2C0_SDA, 41 PF.0/ICE_DAT, 42 PF.1/ICE_CLK, 43 AVSS, 44 PA.0/AD0/CMP1_P/TM2_CAP_IN/PWM0_CH2/SPI3_MOSI1, 45 PA.1/AD1/CMP1_N/SPI3_MISO1, 46 PA.2/AD2/UART1_RXD, 47 PA.3/AD3/UART1_TXD/SPI3_MOSI0, 48 PA.4/AD4/I2C0_SDA/SPI3_MISO0, 49 PA.5/AD5/I2C0_SCL/SPI3_SCLK, 50 PA.6/AD6/CMP1_OUT/TM3_CAP_IN/TM3_ECNT_IN/PWM0_CH3/SPI3_SS0/TM3_TOG_OUT, 51 VREF, 52 AVDD, 53 PC.7/UART1_TXD/AD7/TM1_CAP_IN/PWM0_CH1, 54 PC.6/UART1_RXD/TM0_CAP_IN/SC1_CD/PWM0_CH0, 55 PC.15/UART1_RTSn/TM0_CAP_IN, 56 PC.14/UART1_CTSn, 57 PB.15/INT1/SNOOPER/SC1_CD, 58 PF.3/XT1_IN, 59 PF.2/XT1_OUT, 60 nRESET, 61 VSS, 62 VDD, 63 PVSS, 64 PB.8/STADC/TM0_ECNT_IN/INT0/TM0_TOG_OUT/SNOOPER

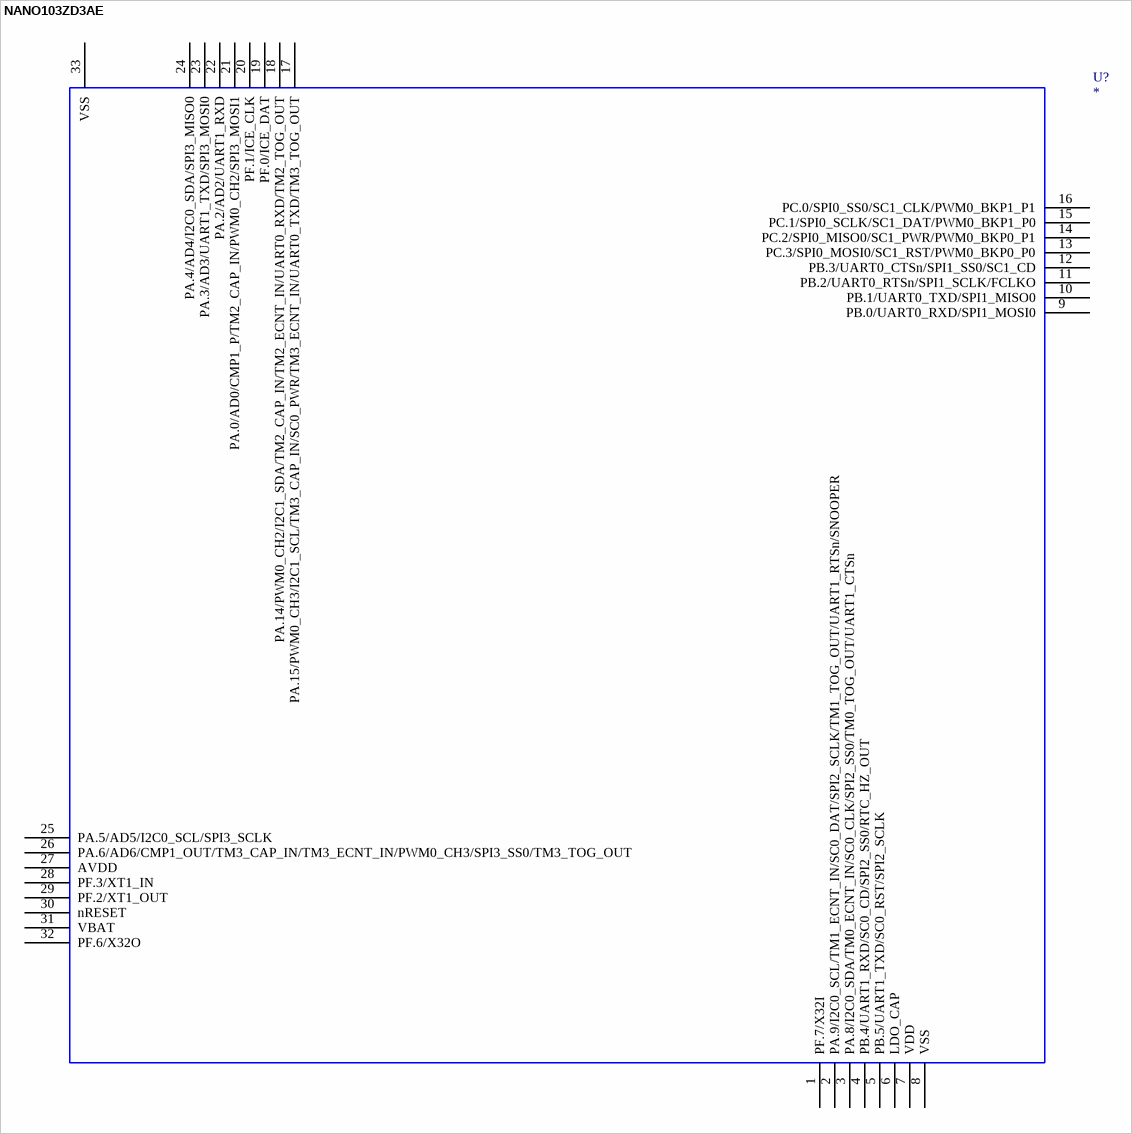
[diagram p87: symbol NANO103ZD3AE]

## NANO103ZD3AE
designator U?
OriginalSymbolOrigin: (0,0)
footprint MCU_QFN_33_5x5
pins: 1 PF.7/X32I, 2 PA.9/I2C0_SCL/TM1_ECNT_IN/SC0_DAT/SPI2_SCLK/TM1_TOG_OUT/UART1_RTSn/SNOOPER, 3 PA.8/I2C0_SDA/TM0_ECNT_IN/SC0_CLK/SPI2_SS0/TM0_TOG_OUT/UART1_CTSn, 4 PB.4/UART1_RXD/SC0_CD/SPI2_SS0/RTC_HZ_OUT, 5 PB.5/UART1_TXD/SC0_RST/SPI2_SCLK, 6 LDO_CAP, 7 VDD, 8 VSS, 9 PB.0/UART0_RXD/SPI1_MOSI0, 10 PB.1/UART0_TXD/SPI1_MISO0, 11 PB.2/UART0_RTSn/SPI1_SCLK/FCLKO, 12 PB.3/UART0_CTSn/SPI1_SS0/SC1_CD, 13 PC.3/SPI0_MOSI0/SC1_RST/PWM0_BKP0_P0, 14 PC.2/SPI0_MISO0/SC1_PWR/PWM0_BKP0_P1, 15 PC.1/SPI0_SCLK/SC1_DAT/PWM0_BKP1_P0, 16 PC.0/SPI0_SS0/SC1_CLK/PWM0_BKP1_P1, 17 PA.15/PWM0_CH3/I2C1_SCL/TM3_CAP_IN/SC0_PWR/TM3_ECNT_IN/UART0_TXD/TM3_TOG_OUT, 18 PA.14/PWM0_CH2/I2C1_SDA/TM2_CAP_IN/TM2_ECNT_IN/UART0_RXD/TM2_TOG_OUT, 19 PF.0/ICE_DAT, 20 PF.1/ICE_CLK, 21 PA.0/AD0/CMP1_P/TM2_CAP_IN/PWM0_CH2/SPI3_MOSI1, 22 PA.2/AD2/UART1_RXD, 23 PA.3/AD3/UART1_TXD/SPI3_MOSI0, 24 PA.4/AD4/I2C0_SDA/SPI3_MISO0, 25 PA.5/AD5/I2C0_SCL/SPI3_SCLK, 26 PA.6/AD6/CMP1_OUT/TM3_CAP_IN/TM3_ECNT_IN/PWM0_CH3/SPI3_SS0/TM3_TOG_OUT, 27 AVDD, 28 PF.3/XT1_IN, 29 PF.2/XT1_OUT, 30 nRESET, 31 VBAT, 32 PF.6/X32O, 33 VSS


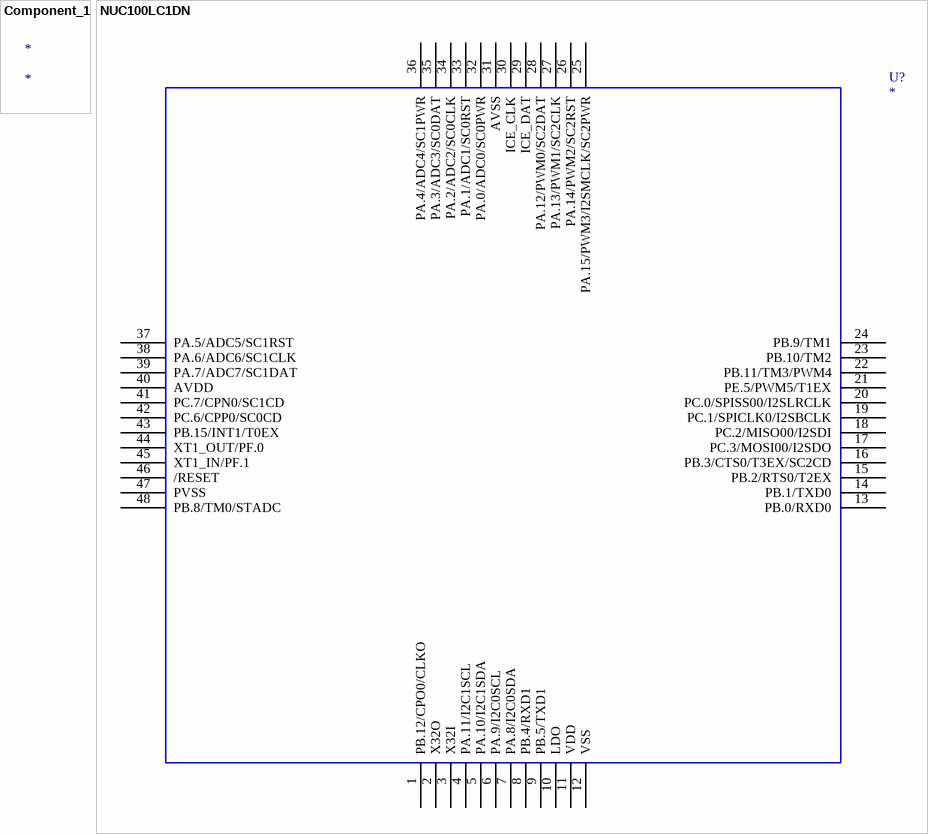
[diagram p88: symbols Component_1 to NUC100LC1DN]

## Component_1
designator *

## NUC100LC1DN
designator U?
OriginalSymbolOrigin: (0,0)
footprint MCU_LQFP_48
pins: 1 PB.12/CPO0/CLKO, 2 X32O, 3 X32I, 4 PA.11/I2C1SCL, 5 PA.10/I2C1SDA, 6 PA.9/I2C0SCL, 7 PA.8/I2C0SDA, 8 PB.4/RXD1, 9 PB.5/TXD1, 10 LDO, 11 VDD, 12 VSS, 13 PB.0/RXD0, 14 PB.1/TXD0, 15 PB.2/RTS0/T2EX, 16 PB.3/CTS0/T3EX/SC2CD, 17 PC.3/MOSI00/I2SDO, 18 PC.2/MISO00/I2SDI, 19 PC.1/SPICLK0/I2SBCLK, 20 PC.0/SPISS00/I2SLRCLK, 21 PE.5/PWM5/T1EX, 22 PB.11/TM3/PWM4, 23 PB.10/TM2, 24 PB.9/TM1, 25 PA.15/PWM3/I2SMCLK/SC2PWR, 26 PA.14/PWM2/SC2RST, 27 PA.13/PWM1/SC2CLK, 28 PA.12/PWM0/SC2DAT, 29 ICE_DAT, 30 ICE_CLK, 31 AVSS, 32 PA.0/ADC0/SC0PWR, 33 PA.1/ADC1/SC0RST, 34 PA.2/ADC2/SC0CLK, 35 PA.3/ADC3/SC0DAT, 36 PA.4/ADC4/SC1PWR, 37 PA.5/ADC5/SC1RST, 38 PA.6/ADC6/SC1CLK, 39 PA.7/ADC7/SC1DAT, 40 AVDD, 41 PC.7/CPN0/SC1CD, 42 PC.6/CPP0/SC0CD, 43 PB.15/INT1/T0EX, 44 XT1_OUT/PF.0, 45 XT1_IN/PF.1, 46 /RESET, 47 PVSS, 48 PB.8/TM0/STADC

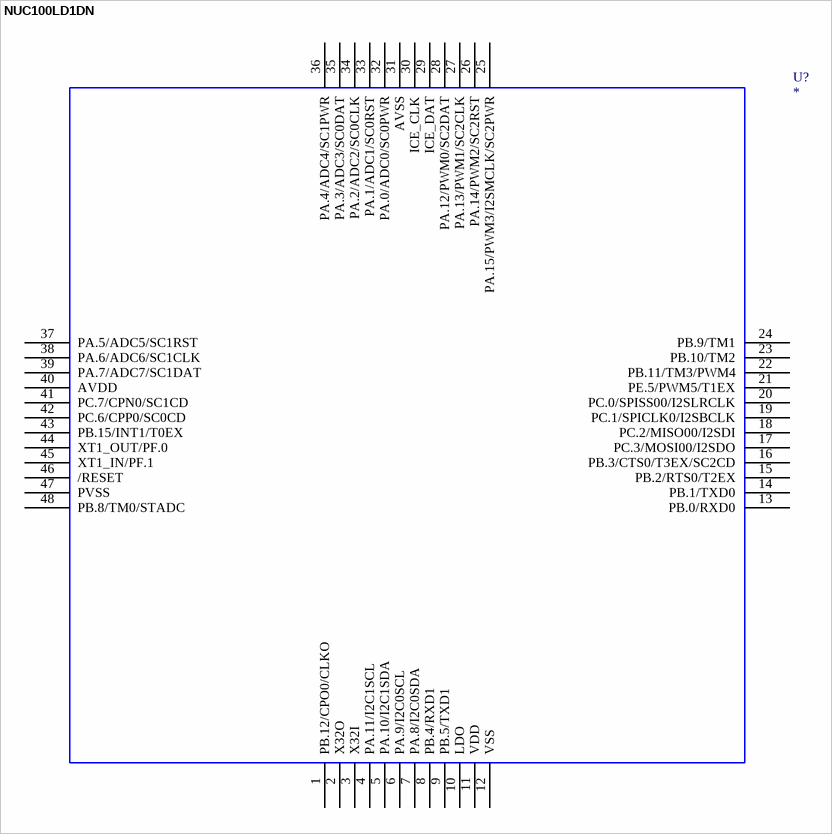
[diagram p89: symbol NUC100LD1DN]

## NUC100LD1DN
designator U?
OriginalSymbolOrigin: (0,0)
footprint MCU_LQFP_48
pins: 1 PB.12/CPO0/CLKO, 2 X32O, 3 X32I, 4 PA.11/I2C1SCL, 5 PA.10/I2C1SDA, 6 PA.9/I2C0SCL, 7 PA.8/I2C0SDA, 8 PB.4/RXD1, 9 PB.5/TXD1, 10 LDO, 11 VDD, 12 VSS, 13 PB.0/RXD0, 14 PB.1/TXD0, 15 PB.2/RTS0/T2EX, 16 PB.3/CTS0/T3EX/SC2CD, 17 PC.3/MOSI00/I2SDO, 18 PC.2/MISO00/I2SDI, 19 PC.1/SPICLK0/I2SBCLK, 20 PC.0/SPISS00/I2SLRCLK, 21 PE.5/PWM5/T1EX, 22 PB.11/TM3/PWM4, 23 PB.10/TM2, 24 PB.9/TM1, 25 PA.15/PWM3/I2SMCLK/SC2PWR, 26 PA.14/PWM2/SC2RST, 27 PA.13/PWM1/SC2CLK, 28 PA.12/PWM0/SC2DAT, 29 ICE_DAT, 30 ICE_CLK, 31 AVSS, 32 PA.0/ADC0/SC0PWR, 33 PA.1/ADC1/SC0RST, 34 PA.2/ADC2/SC0CLK, 35 PA.3/ADC3/SC0DAT, 36 PA.4/ADC4/SC1PWR, 37 PA.5/ADC5/SC1RST, 38 PA.6/ADC6/SC1CLK, 39 PA.7/ADC7/SC1DAT, 40 AVDD, 41 PC.7/CPN0/SC1CD, 42 PC.6/CPP0/SC0CD, 43 PB.15/INT1/T0EX, 44 XT1_OUT/PF.0, 45 XT1_IN/PF.1, 46 /RESET, 47 PVSS, 48 PB.8/TM0/STADC

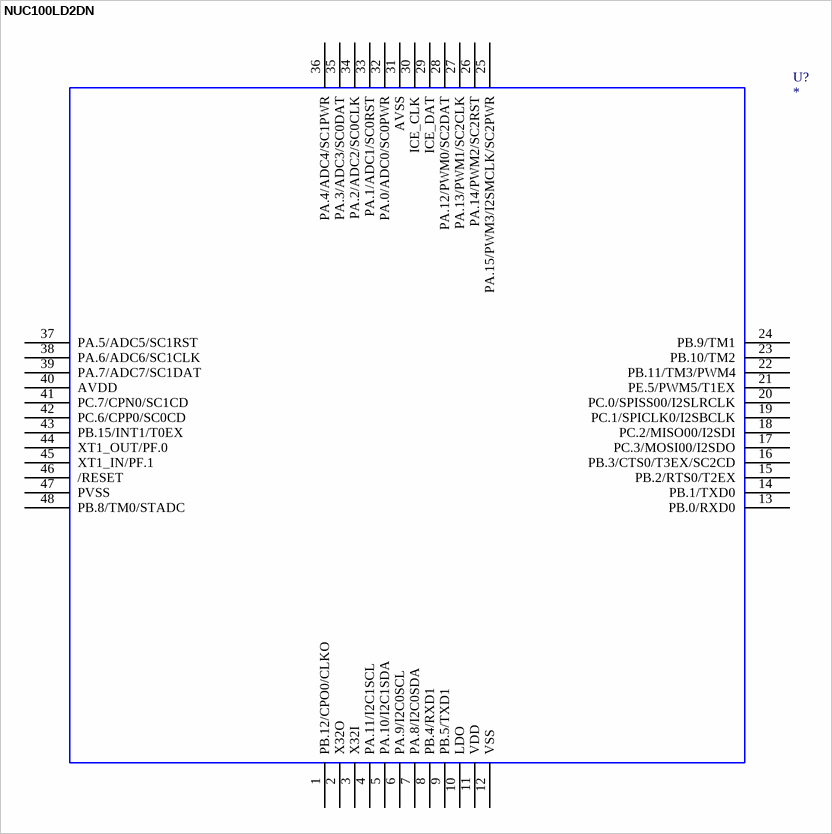
[diagram p90: symbol NUC100LD2DN]

## NUC100LD2DN
designator U?
OriginalSymbolOrigin: (0,0)
footprint MCU_LQFP_48
pins: 1 PB.12/CPO0/CLKO, 2 X32O, 3 X32I, 4 PA.11/I2C1SCL, 5 PA.10/I2C1SDA, 6 PA.9/I2C0SCL, 7 PA.8/I2C0SDA, 8 PB.4/RXD1, 9 PB.5/TXD1, 10 LDO, 11 VDD, 12 VSS, 13 PB.0/RXD0, 14 PB.1/TXD0, 15 PB.2/RTS0/T2EX, 16 PB.3/CTS0/T3EX/SC2CD, 17 PC.3/MOSI00/I2SDO, 18 PC.2/MISO00/I2SDI, 19 PC.1/SPICLK0/I2SBCLK, 20 PC.0/SPISS00/I2SLRCLK, 21 PE.5/PWM5/T1EX, 22 PB.11/TM3/PWM4, 23 PB.10/TM2, 24 PB.9/TM1, 25 PA.15/PWM3/I2SMCLK/SC2PWR, 26 PA.14/PWM2/SC2RST, 27 PA.13/PWM1/SC2CLK, 28 PA.12/PWM0/SC2DAT, 29 ICE_DAT, 30 ICE_CLK, 31 AVSS, 32 PA.0/ADC0/SC0PWR, 33 PA.1/ADC1/SC0RST, 34 PA.2/ADC2/SC0CLK, 35 PA.3/ADC3/SC0DAT, 36 PA.4/ADC4/SC1PWR, 37 PA.5/ADC5/SC1RST, 38 PA.6/ADC6/SC1CLK, 39 PA.7/ADC7/SC1DAT, 40 AVDD, 41 PC.7/CPN0/SC1CD, 42 PC.6/CPP0/SC0CD, 43 PB.15/INT1/T0EX, 44 XT1_OUT/PF.0, 45 XT1_IN/PF.1, 46 /RESET, 47 PVSS, 48 PB.8/TM0/STADC

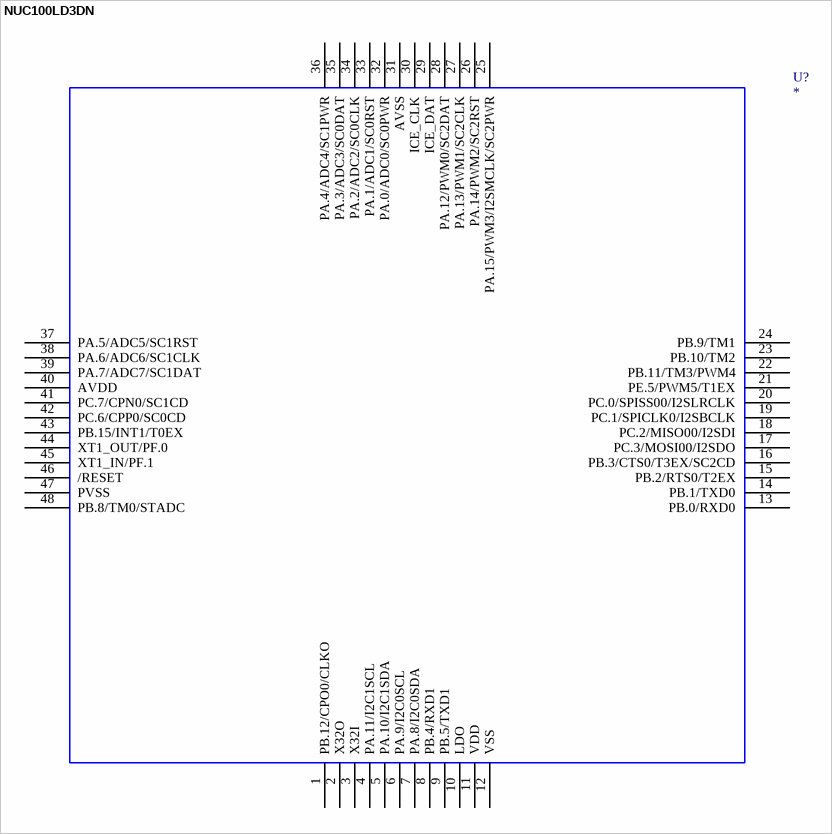
[diagram p91: symbol NUC100LD3DN]

## NUC100LD3DN
designator U?
OriginalSymbolOrigin: (0,0)
footprint MCU_LQFP_48
pins: 1 PB.12/CPO0/CLKO, 2 X32O, 3 X32I, 4 PA.11/I2C1SCL, 5 PA.10/I2C1SDA, 6 PA.9/I2C0SCL, 7 PA.8/I2C0SDA, 8 PB.4/RXD1, 9 PB.5/TXD1, 10 LDO, 11 VDD, 12 VSS, 13 PB.0/RXD0, 14 PB.1/TXD0, 15 PB.2/RTS0/T2EX, 16 PB.3/CTS0/T3EX/SC2CD, 17 PC.3/MOSI00/I2SDO, 18 PC.2/MISO00/I2SDI, 19 PC.1/SPICLK0/I2SBCLK, 20 PC.0/SPISS00/I2SLRCLK, 21 PE.5/PWM5/T1EX, 22 PB.11/TM3/PWM4, 23 PB.10/TM2, 24 PB.9/TM1, 25 PA.15/PWM3/I2SMCLK/SC2PWR, 26 PA.14/PWM2/SC2RST, 27 PA.13/PWM1/SC2CLK, 28 PA.12/PWM0/SC2DAT, 29 ICE_DAT, 30 ICE_CLK, 31 AVSS, 32 PA.0/ADC0/SC0PWR, 33 PA.1/ADC1/SC0RST, 34 PA.2/ADC2/SC0CLK, 35 PA.3/ADC3/SC0DAT, 36 PA.4/ADC4/SC1PWR, 37 PA.5/ADC5/SC1RST, 38 PA.6/ADC6/SC1CLK, 39 PA.7/ADC7/SC1DAT, 40 AVDD, 41 PC.7/CPN0/SC1CD, 42 PC.6/CPP0/SC0CD, 43 PB.15/INT1/T0EX, 44 XT1_OUT/PF.0, 45 XT1_IN/PF.1, 46 /RESET, 47 PVSS, 48 PB.8/TM0/STADC